# Altium integrated library AD DSP 16-Bit.IntLib: 146 symbols (part 4 of 7)
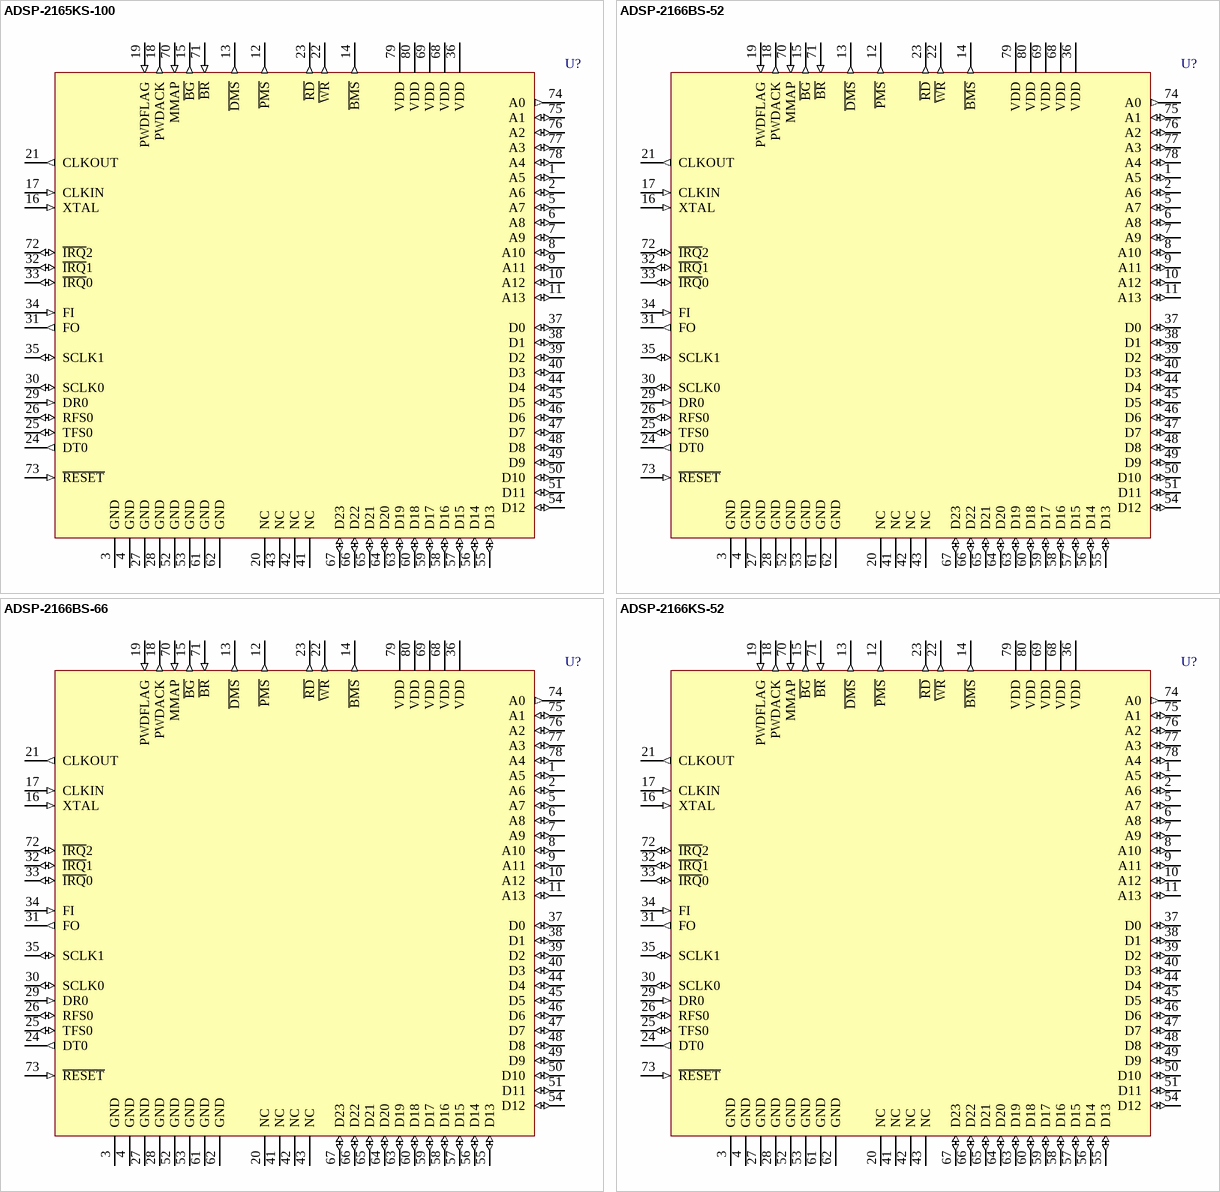
[diagram p48: symbols ADSP-2165KS-100 to ADSP-2166KS-52]

## ADSP-2165KS-100
designator U?
DSP Microcomputers with ROM; Published: 24-Aug-2001; LatestRevisionDate: 13-Apr-2006; LatestRevisionNote: IPC-7351 Footprint Added.; DatasheetVersion: 1999; PackageVersion: 2000; PackageReference: S-80A; Publisher: Altium Limited; PackageDescription: 80-Pin Quad Flat Pack 0.65 mm Pitch; Code_IPC: QFP65P1720X1720-80; ComponentLink1Description: Manufacturer Link; ComponentLink1URL: http://www.analog.com/
footprint S-80A_N (QFP, 80-Leads, Body 14 x 14mm, Pitch 0.65mm, IPC Medium Density)
footprint S-80A_L (QFP, 80-Leads, Body 14 x 14mm, Pitch 0.65mm, IPC High Density)
footprint S-80A_M (QFP, 80-Leads, Body 14 x 14mm, Pitch 0.65mm, IPC Low Density)
3D model 2165-S80A (80-Pin Quad Flat Pack 0.65 mm Pitch)
pins: 1 A5 (io), 2 A6 (io), 3 GND (power), 4 GND (power), 5 A7 (io), 6 A8 (io), 7 A9 (io), 8 A10 (io), 9 A11 (io), 10 A12 (io), 11 A13 (io), 12 ~{PMS} (out), 13 ~{DMS} (out), 14 ~{BMS} (out), 15 ~{BG} (out), 16 XTAL (in), 17 CLKIN (in), 18 PWDACK (out), 19 PWDFLAG (in), 20 NC, 21 CLKOUT (out), 22 ~{WR} (out), 23 ~{RD} (out), 24 DT0 (out), 25 TFS0 (io), 26 RFS0 (io), 27 GND (power), 28 GND (power), 29 DR0 (in), 30 SCLK0 (io), 31 FO (out), 32 ~{IRQ}1 (io), 33 ~{IRQ}0 (io), 34 FI (in), 35 SCLK1 (io), 36 VDD (power), 37 D0 (io), 38 D1 (io), 39 D2 (io), 40 D3 (io), 41 NC, 42 NC, 43 NC, 44 D4 (io), 45 D5 (io), 46 D6 (io), 47 D7 (io), 48 D8 (io), 49 D9 (io), 50 D10 (io), 51 D11 (io), 52 GND (power), 53 GND (power), 54 D12 (io), 55 D13 (io), 56 D14 (io), 57 D15 (io), 58 D16 (io), 59 D17 (io), 60 D18 (io), 61 GND (power), 62 GND (power), 63 D19 (io), 64 D20 (io), 65 D21 (io), 66 D22 (io), 67 D23 (io), 68 VDD (power), 69 VDD (power), 70 MMAP (in), 71 ~{BR} (in), 72 ~{IRQ}2 (io), 73 ~{RESET} (in), 74 A0 (out), 75 A1 (io), 76 A2 (io), 77 A3 (io), 78 A4 (io), 79 VDD (power), 80 VDD (power)

## ADSP-2166BS-52
designator U?
DSP Microcomputers with ROM; Published: 24-Aug-2001; LatestRevisionDate: 13-Apr-2006; LatestRevisionNote: IPC-7351 Footprint Added.; DatasheetVersion: 1999; PackageVersion: 2000; PackageReference: S-80A; Publisher: Altium Limited; PackageDescription: 80-Pin Quad Flat Pack 0.65 mm Pitch; Code_IPC: QFP65P1720X1720-80; ComponentLink1Description: Manufacturer Link; ComponentLink1URL: http://www.analog.com/
footprint S-80A_N (QFP, 80-Leads, Body 14 x 14mm, Pitch 0.65mm, IPC Medium Density)
footprint S-80A_L (QFP, 80-Leads, Body 14 x 14mm, Pitch 0.65mm, IPC High Density)
footprint S-80A_M (QFP, 80-Leads, Body 14 x 14mm, Pitch 0.65mm, IPC Low Density)
3D model 2166-S80A (80-Pin Quad Flat Pack 0.65 mm Pitch)
pins: 1 A5 (io), 2 A6 (io), 3 GND (power), 4 GND (power), 5 A7 (io), 6 A8 (io), 7 A9 (io), 8 A10 (io), 9 A11 (io), 10 A12 (io), 11 A13 (io), 12 ~{PMS} (out), 13 ~{DMS} (out), 14 ~{BMS} (out), 15 ~{BG} (out), 16 XTAL (in), 17 CLKIN (in), 18 PWDACK (out), 19 PWDFLAG (in), 20 NC, 21 CLKOUT (out), 22 ~{WR} (out), 23 ~{RD} (out), 24 DT0 (out), 25 TFS0 (io), 26 RFS0 (io), 27 GND (power), 28 GND (power), 29 DR0 (in), 30 SCLK0 (io), 31 FO (out), 32 ~{IRQ}1 (io), 33 ~{IRQ}0 (io), 34 FI (in), 35 SCLK1 (io), 36 VDD (power), 37 D0 (io), 38 D1 (io), 39 D2 (io), 40 D3 (io), 41 NC, 42 NC, 43 NC, 44 D4 (io), 45 D5 (io), 46 D6 (io), 47 D7 (io), 48 D8 (io), 49 D9 (io), 50 D10 (io), 51 D11 (io), 52 GND (power), 53 GND (power), 54 D12 (io), 55 D13 (io), 56 D14 (io), 57 D15 (io), 58 D16 (io), 59 D17 (io), 60 D18 (io), 61 GND (power), 62 GND (power), 63 D19 (io), 64 D20 (io), 65 D21 (io), 66 D22 (io), 67 D23 (io), 68 VDD (power), 69 VDD (power), 70 MMAP (in), 71 ~{BR} (in), 72 ~{IRQ}2 (io), 73 ~{RESET} (in), 74 A0 (out), 75 A1 (io), 76 A2 (io), 77 A3 (io), 78 A4 (io), 79 VDD (power), 80 VDD (power)

## ADSP-2166BS-66
designator U?
DSP Microcomputers with ROM; Published: 24-Aug-2001; LatestRevisionDate: 13-Apr-2006; LatestRevisionNote: IPC-7351 Footprint Added.; DatasheetVersion: 1999; PackageVersion: 2000; PackageReference: S-80A; Publisher: Altium Limited; PackageDescription: 80-Pin Quad Flat Pack 0.65 mm Pitch; Code_IPC: QFP65P1720X1720-80; ComponentLink1Description: Manufacturer Link; ComponentLink1URL: http://www.analog.com/
footprint S-80A_N (QFP, 80-Leads, Body 14 x 14mm, Pitch 0.65mm, IPC Medium Density)
footprint S-80A_L (QFP, 80-Leads, Body 14 x 14mm, Pitch 0.65mm, IPC High Density)
footprint S-80A_M (QFP, 80-Leads, Body 14 x 14mm, Pitch 0.65mm, IPC Low Density)
3D model 2166-S80A (80-Pin Quad Flat Pack 0.65 mm Pitch)
pins: 1 A5 (io), 2 A6 (io), 3 GND (power), 4 GND (power), 5 A7 (io), 6 A8 (io), 7 A9 (io), 8 A10 (io), 9 A11 (io), 10 A12 (io), 11 A13 (io), 12 ~{PMS} (out), 13 ~{DMS} (out), 14 ~{BMS} (out), 15 ~{BG} (out), 16 XTAL (in), 17 CLKIN (in), 18 PWDACK (out), 19 PWDFLAG (in), 20 NC, 21 CLKOUT (out), 22 ~{WR} (out), 23 ~{RD} (out), 24 DT0 (out), 25 TFS0 (io), 26 RFS0 (io), 27 GND (power), 28 GND (power), 29 DR0 (in), 30 SCLK0 (io), 31 FO (out), 32 ~{IRQ}1 (io), 33 ~{IRQ}0 (io), 34 FI (in), 35 SCLK1 (io), 36 VDD (power), 37 D0 (io), 38 D1 (io), 39 D2 (io), 40 D3 (io), 41 NC, 42 NC, 43 NC, 44 D4 (io), 45 D5 (io), 46 D6 (io), 47 D7 (io), 48 D8 (io), 49 D9 (io), 50 D10 (io), 51 D11 (io), 52 GND (power), 53 GND (power), 54 D12 (io), 55 D13 (io), 56 D14 (io), 57 D15 (io), 58 D16 (io), 59 D17 (io), 60 D18 (io), 61 GND (power), 62 GND (power), 63 D19 (io), 64 D20 (io), 65 D21 (io), 66 D22 (io), 67 D23 (io), 68 VDD (power), 69 VDD (power), 70 MMAP (in), 71 ~{BR} (in), 72 ~{IRQ}2 (io), 73 ~{RESET} (in), 74 A0 (out), 75 A1 (io), 76 A2 (io), 77 A3 (io), 78 A4 (io), 79 VDD (power), 80 VDD (power)

## ADSP-2166KS-52
designator U?
DSP Microcomputers with ROM; Published: 24-Aug-2001; LatestRevisionDate: 13-Apr-2006; LatestRevisionNote: IPC-7351 Footprint Added.; DatasheetVersion: 1999; PackageVersion: 2000; PackageReference: S-80A; Publisher: Altium Limited; PackageDescription: 80-Pin Quad Flat Pack 0.65 mm Pitch; Code_IPC: QFP65P1720X1720-80; ComponentLink1Description: Manufacturer Link; ComponentLink1URL: http://www.analog.com/
footprint S-80A_N (QFP, 80-Leads, Body 14 x 14mm, Pitch 0.65mm, IPC Medium Density)
footprint S-80A_L (QFP, 80-Leads, Body 14 x 14mm, Pitch 0.65mm, IPC High Density)
footprint S-80A_M (QFP, 80-Leads, Body 14 x 14mm, Pitch 0.65mm, IPC Low Density)
3D model 2166-S80A (80-Pin Quad Flat Pack 0.65 mm Pitch)
pins: 1 A5 (io), 2 A6 (io), 3 GND (power), 4 GND (power), 5 A7 (io), 6 A8 (io), 7 A9 (io), 8 A10 (io), 9 A11 (io), 10 A12 (io), 11 A13 (io), 12 ~{PMS} (out), 13 ~{DMS} (out), 14 ~{BMS} (out), 15 ~{BG} (out), 16 XTAL (in), 17 CLKIN (in), 18 PWDACK (out), 19 PWDFLAG (in), 20 NC, 21 CLKOUT (out), 22 ~{WR} (out), 23 ~{RD} (out), 24 DT0 (out), 25 TFS0 (io), 26 RFS0 (io), 27 GND (power), 28 GND (power), 29 DR0 (in), 30 SCLK0 (io), 31 FO (out), 32 ~{IRQ}1 (io), 33 ~{IRQ}0 (io), 34 FI (in), 35 SCLK1 (io), 36 VDD (power), 37 D0 (io), 38 D1 (io), 39 D2 (io), 40 D3 (io), 41 NC, 42 NC, 43 NC, 44 D4 (io), 45 D5 (io), 46 D6 (io), 47 D7 (io), 48 D8 (io), 49 D9 (io), 50 D10 (io), 51 D11 (io), 52 GND (power), 53 GND (power), 54 D12 (io), 55 D13 (io), 56 D14 (io), 57 D15 (io), 58 D16 (io), 59 D17 (io), 60 D18 (io), 61 GND (power), 62 GND (power), 63 D19 (io), 64 D20 (io), 65 D21 (io), 66 D22 (io), 67 D23 (io), 68 VDD (power), 69 VDD (power), 70 MMAP (in), 71 ~{BR} (in), 72 ~{IRQ}2 (io), 73 ~{RESET} (in), 74 A0 (out), 75 A1 (io), 76 A2 (io), 77 A3 (io), 78 A4 (io), 79 VDD (power), 80 VDD (power)

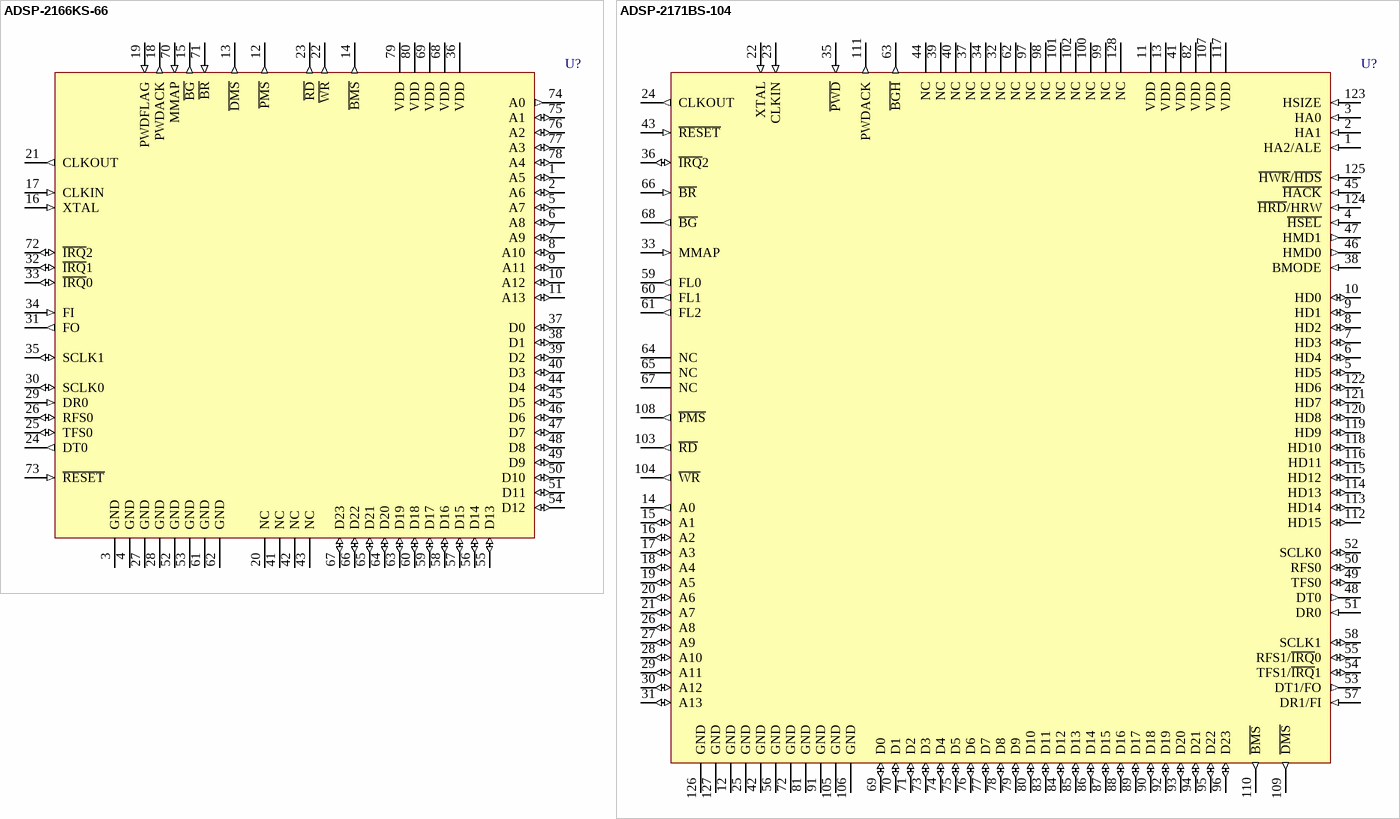
[diagram p19: symbols ADSP-2166KS-66 to ADSP-2171BS-104]

## ADSP-2166KS-66
designator U?
DSP Microcomputers with ROM; Published: 24-Aug-2001; LatestRevisionDate: 13-Apr-2006; LatestRevisionNote: IPC-7351 Footprint Added.; DatasheetVersion: 1999; PackageVersion: 2000; PackageReference: S-80A; Publisher: Altium Limited; PackageDescription: 80-Pin Quad Flat Pack 0.65 mm Pitch; Code_IPC: QFP65P1720X1720-80; ComponentLink1Description: Manufacturer Link; ComponentLink1URL: http://www.analog.com/
footprint S-80A_N (QFP, 80-Leads, Body 14 x 14mm, Pitch 0.65mm, IPC Medium Density)
footprint S-80A_L (QFP, 80-Leads, Body 14 x 14mm, Pitch 0.65mm, IPC High Density)
footprint S-80A_M (QFP, 80-Leads, Body 14 x 14mm, Pitch 0.65mm, IPC Low Density)
3D model 2166-S80A (80-Pin Quad Flat Pack 0.65 mm Pitch)
pins: 1 A5 (io), 2 A6 (io), 3 GND (power), 4 GND (power), 5 A7 (io), 6 A8 (io), 7 A9 (io), 8 A10 (io), 9 A11 (io), 10 A12 (io), 11 A13 (io), 12 ~{PMS} (out), 13 ~{DMS} (out), 14 ~{BMS} (out), 15 ~{BG} (out), 16 XTAL (in), 17 CLKIN (in), 18 PWDACK (out), 19 PWDFLAG (in), 20 NC, 21 CLKOUT (out), 22 ~{WR} (out), 23 ~{RD} (out), 24 DT0 (out), 25 TFS0 (io), 26 RFS0 (io), 27 GND (power), 28 GND (power), 29 DR0 (in), 30 SCLK0 (io), 31 FO (out), 32 ~{IRQ}1 (io), 33 ~{IRQ}0 (io), 34 FI (in), 35 SCLK1 (io), 36 VDD (power), 37 D0 (io), 38 D1 (io), 39 D2 (io), 40 D3 (io), 41 NC, 42 NC, 43 NC, 44 D4 (io), 45 D5 (io), 46 D6 (io), 47 D7 (io), 48 D8 (io), 49 D9 (io), 50 D10 (io), 51 D11 (io), 52 GND (power), 53 GND (power), 54 D12 (io), 55 D13 (io), 56 D14 (io), 57 D15 (io), 58 D16 (io), 59 D17 (io), 60 D18 (io), 61 GND (power), 62 GND (power), 63 D19 (io), 64 D20 (io), 65 D21 (io), 66 D22 (io), 67 D23 (io), 68 VDD (power), 69 VDD (power), 70 MMAP (in), 71 ~{BR} (in), 72 ~{IRQ}2 (io), 73 ~{RESET} (in), 74 A0 (out), 75 A1 (io), 76 A2 (io), 77 A3 (io), 78 A4 (io), 79 VDD (power), 80 VDD (power)

## ADSP-2171BS-104
designator U?
33 MIPS, 5V, 2 Serial Ports, Host Port; Published: 24-Aug-2001; LatestRevisionDate: 13-Apr-2006; LatestRevisionNote: IPC-7351 Footprint Added.; DatasheetVersion: 1995; PackageVersion: 2000; PackageReference: S-128; Publisher: Altium Limited; PackageDescription: 128-Pin Quad Flat Pack 0.8 mm Pitch; Code_IPC: QFP80P3120X3120-128; ComponentLink1Description: Manufacturer Link; ComponentLink1URL: http://www.analog.com/; ComponentLink2Description: Datasheet; ComponentLink2URL: http://www.analog.com/UploadedFiles/Data_Sheets/285648807adsp_71.pdf
footprint S-128_N (QFP, 128-Leads, Body 28x28mm, Pitch 0.8mm, IPC Medium Density)
footprint S-128_L (QFP, 128-Leads, Body 28x28mm, Pitch 0.8mm, IPC High Density)
footprint S-128_M (QFP, 128-Leads, Body 28x28mm, Pitch 0.8mm, IPC Low Density)
3D model 2171-S128 (128-Pin Quad Flat Pack 0.8 mm Pitch)
pins: 1 HA2/ALE (in), 2 HA1 (in), 3 HA0 (in), 4 ~{HSEL} (in), 5 HD5 (io), 6 HD4 (io), 7 HD3 (io), 8 HD2 (io), 9 HD1 (io), 10 HD0 (io), 11 VDD (power), 12 GND (power), 13 VDD (power), 14 A0 (out), 15 A1 (io), 16 A2 (io), 17 A3 (io), 18 A4 (io), 19 A5 (io), 20 A6 (io), 21 A7 (io), 22 XTAL (in), 23 CLKIN (in), 24 CLKOUT (out), 25 GND (power), 26 A8 (io), 27 A9 (io), 28 A10 (io), 29 A11 (io), 30 A12 (io), 31 A13 (io), 32 NC, 33 MMAP (in), 34 NC, 35 ~{PWD} (in), 36 ~{IRQ}2 (io), 37 NC, 38 BMODE (in), 39 NC, 40 NC, 41 VDD (power), 42 GND (power), 43 ~{RESET} (in), 44 NC, 45 ~{HACK} (in), 46 HMD0 (out), 47 HMD1 (out), 48 DT0 (out), 49 TFS0 (io), 50 RFS0 (io), 51 DR0 (in), 52 SCLK0 (io), 53 DT1/FO (out), 54 TFS1/~{IRQ}1 (io), 55 RFS1/~{IRQ}0 (io), 56 GND (power), 57 DR1/FI (in), 58 SCLK1 (io), 59 FL0 (out), 60 FL1 (out), 61 FL2 (out), 62 NC, 63 ~{BGH} (out), 64 NC, 65 NC, 66 ~{BR} (in), 67 NC, 68 ~{BG} (out), 69 D0 (io), 70 D1 (io), 71 D2 (io), 72 GND (power), 73 D3 (io), 74 D4 (io), 75 D5 (io), 76 D6 (io), 77 D7 (io), 78 D8 (io), 79 D9 (io), 80 D10 (io), 81 GND (power), 82 VDD (power), 83 D11 (io), 84 D12 (io), 85 D13 (io), 86 D14 (io), 87 D15 (io), 88 D16 (io), 89 D17 (io), 90 D18 (io), 91 GND (power), 92 D19 (io), 93 D20 (io), 94 D21 (io), 95 D22 (io), 96 D23 (io), 97 NC, 98 NC, 99 NC, 100 NC, 101 NC, 102 NC, 103 ~{RD} (out), 104 ~{WR} (out), 105 GND (power), 106 GND (power), 107 VDD (power), 108 ~{PMS} (out), 109 ~{DMS} (out), 110 ~{BMS} (out), 111 PWDACK (out), 112 HD15 (io), 113 HD14 (io), 114 HD13 (io), 115 HD12 (io), 116 HD11 (io), 117 VDD (power), 118 HD10 (io), 119 HD9 (io), 120 HD8 (io), 121 HD7 (io), 122 HD6 (io), 123 HSIZE (in), 124 ~{HRD}/HRW (in), 125 ~{HWR}/~{HDS} (in), 126 GND (power), 127 GND (power), 128 NC

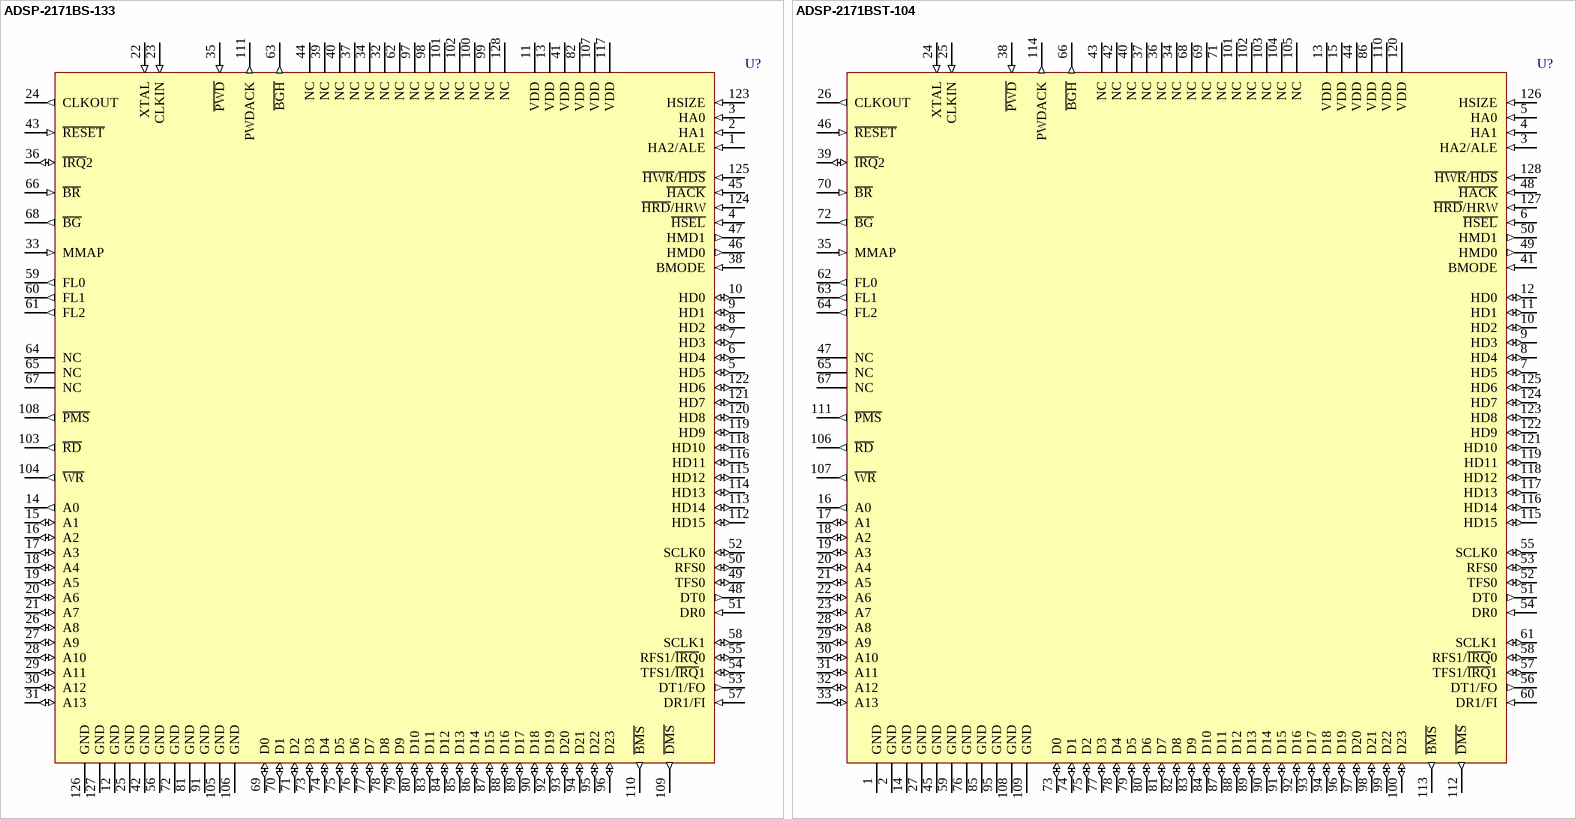
[diagram p20: symbols ADSP-2171BS-133 to ADSP-2171BST-104]

## ADSP-2171BS-133
designator U?
33 MIPS, 5V, 2 Serial Ports, Host Port; Published: 24-Aug-2001; LatestRevisionDate: 13-Apr-2006; LatestRevisionNote: IPC-7351 Footprint Added.; DatasheetVersion: 1995; PackageVersion: 2000; PackageReference: S-128; Publisher: Altium Limited; PackageDescription: 128-Pin Quad Flat Pack 0.8 mm Pitch; Code_IPC: QFP80P3120X3120-128; ComponentLink1Description: Manufacturer Link; ComponentLink1URL: http://www.analog.com/; ComponentLink2Description: Datasheet; ComponentLink2URL: http://www.analog.com/UploadedFiles/Data_Sheets/285648807adsp_71.pdf
footprint S-128_N (QFP, 128-Leads, Body 28x28mm, Pitch 0.8mm, IPC Medium Density)
footprint S-128_L (QFP, 128-Leads, Body 28x28mm, Pitch 0.8mm, IPC High Density)
footprint S-128_M (QFP, 128-Leads, Body 28x28mm, Pitch 0.8mm, IPC Low Density)
3D model 2171-S128 (128-Pin Quad Flat Pack 0.8 mm Pitch)
pins: 1 HA2/ALE (in), 2 HA1 (in), 3 HA0 (in), 4 ~{HSEL} (in), 5 HD5 (io), 6 HD4 (io), 7 HD3 (io), 8 HD2 (io), 9 HD1 (io), 10 HD0 (io), 11 VDD (power), 12 GND (power), 13 VDD (power), 14 A0 (out), 15 A1 (io), 16 A2 (io), 17 A3 (io), 18 A4 (io), 19 A5 (io), 20 A6 (io), 21 A7 (io), 22 XTAL (in), 23 CLKIN (in), 24 CLKOUT (out), 25 GND (power), 26 A8 (io), 27 A9 (io), 28 A10 (io), 29 A11 (io), 30 A12 (io), 31 A13 (io), 32 NC, 33 MMAP (in), 34 NC, 35 ~{PWD} (in), 36 ~{IRQ}2 (io), 37 NC, 38 BMODE (in), 39 NC, 40 NC, 41 VDD (power), 42 GND (power), 43 ~{RESET} (in), 44 NC, 45 ~{HACK} (in), 46 HMD0 (out), 47 HMD1 (out), 48 DT0 (out), 49 TFS0 (io), 50 RFS0 (io), 51 DR0 (in), 52 SCLK0 (io), 53 DT1/FO (out), 54 TFS1/~{IRQ}1 (io), 55 RFS1/~{IRQ}0 (io), 56 GND (power), 57 DR1/FI (in), 58 SCLK1 (io), 59 FL0 (out), 60 FL1 (out), 61 FL2 (out), 62 NC, 63 ~{BGH} (out), 64 NC, 65 NC, 66 ~{BR} (in), 67 NC, 68 ~{BG} (out), 69 D0 (io), 70 D1 (io), 71 D2 (io), 72 GND (power), 73 D3 (io), 74 D4 (io), 75 D5 (io), 76 D6 (io), 77 D7 (io), 78 D8 (io), 79 D9 (io), 80 D10 (io), 81 GND (power), 82 VDD (power), 83 D11 (io), 84 D12 (io), 85 D13 (io), 86 D14 (io), 87 D15 (io), 88 D16 (io), 89 D17 (io), 90 D18 (io), 91 GND (power), 92 D19 (io), 93 D20 (io), 94 D21 (io), 95 D22 (io), 96 D23 (io), 97 NC, 98 NC, 99 NC, 100 NC, 101 NC, 102 NC, 103 ~{RD} (out), 104 ~{WR} (out), 105 GND (power), 106 GND (power), 107 VDD (power), 108 ~{PMS} (out), 109 ~{DMS} (out), 110 ~{BMS} (out), 111 PWDACK (out), 112 HD15 (io), 113 HD14 (io), 114 HD13 (io), 115 HD12 (io), 116 HD11 (io), 117 VDD (power), 118 HD10 (io), 119 HD9 (io), 120 HD8 (io), 121 HD7 (io), 122 HD6 (io), 123 HSIZE (in), 124 ~{HRD}/HRW (in), 125 ~{HWR}/~{HDS} (in), 126 GND (power), 127 GND (power), 128 NC

## ADSP-2171BST-104
designator U?
33 MIPS, 5V, 2 Serial Ports, Host Port; Published: 24-Aug-2001; LatestRevisionDate: 13-Apr-2006; LatestRevisionNote: IPC-7351 Footprint Added.; DatasheetVersion: 1995; PackageVersion: 2000; PackageReference: ST-128; Publisher: Altium Limited; PackageDescription: 128-Pin Thin Quad Flat Pack Rectangular 0.5 mm Pitch; ComponentLink1Description: Manufacturer Link; ComponentLink1URL: http://www.analog.com/; ComponentLink2Description: Datasheet; ComponentLink2URL: http://www.analog.com/UploadedFiles/Data_Sheets/285648807adsp_71.pdf
footprint ST-128_N (Thin QFP, 128-Leads, Body 20x14 mm, Pitch 0.5mm, IPC Medium Density)
footprint ST-128_L (Thin QFP, 128-Leads, Body 20x14 mm, Pitch 0.5mm, IPC High Density)
footprint ST-128_M (Thin QFP, 128-Leads, Body 20x14 mm, Pitch 0.5mm, IPC Low Density)
3D model 2171-ST128 (128-Pin Thin Quad Flat Pack Rectangular 0.5 mm Pitch)
pins: 1 GND (power), 2 GND (power), 3 HA2/ALE (in), 4 HA1 (in), 5 HA0 (in), 6 ~{HSEL} (in), 7 HD5 (io), 8 HD4 (io), 9 HD3 (io), 10 HD2 (io), 11 HD1 (io), 12 HD0 (io), 13 VDD (power), 14 GND (power), 15 VDD (power), 16 A0 (out), 17 A1 (io), 18 A2 (io), 19 A3 (io), 20 A4 (io), 21 A5 (io), 22 A6 (io), 23 A7 (io), 24 XTAL (in), 25 CLKIN (in), 26 CLKOUT (out), 27 GND (power), 28 A8 (io), 29 A9 (io), 30 A10 (io), 31 A11 (io), 32 A12 (io), 33 A13 (io), 34 NC, 35 MMAP (in), 36 NC, 37 NC, 38 ~{PWD} (in), 39 ~{IRQ}2 (io), 40 NC, 41 BMODE (in), 42 NC, 43 NC, 44 VDD (power), 45 GND (power), 46 ~{RESET} (in), 47 NC, 48 ~{HACK} (in), 49 HMD0 (out), 50 HMD1 (out), 51 DT0 (out), 52 TFS0 (io), 53 RFS0 (io), 54 DR0 (in), 55 SCLK0 (io), 56 DT1/FO (out), 57 TFS1/~{IRQ}1 (io), 58 RFS1/~{IRQ}0 (io), 59 GND (power), 60 DR1/FI (in), 61 SCLK1 (io), 62 FL0 (out), 63 FL1 (out), 64 FL2 (out), 65 NC, 66 ~{BGH} (out), 67 NC, 68 NC, 69 NC, 70 ~{BR} (in), 71 NC, 72 ~{BG} (out), 73 D0 (io), 74 D1 (io), 75 D2 (io), 76 GND (power), 77 D3 (io), 78 D4 (io), 79 D5 (io), 80 D6 (io), 81 D7 (io), 82 D8 (io), 83 D9 (io), 84 D10 (io), 85 GND (power), 86 VDD (power), 87 D11 (io), 88 D12 (io), 89 D13 (io), 90 D14 (io), 91 D15 (io), 92 D16 (io), 93 D17 (io), 94 D18 (io), 95 GND (power), 96 D19 (io), 97 D20 (io), 98 D21 (io), 99 D22 (io), 100 D23 (io), 101 NC, 102 NC, 103 NC, 104 NC, 105 NC, 106 ~{RD} (out), 107 ~{WR} (out), 108 GND (power), 109 GND (power), 110 VDD (power), 111 ~{PMS} (out), 112 ~{DMS} (out), 113 ~{BMS} (out), 114 PWDACK (out), 115 HD15 (io), 116 HD14 (io), 117 HD13 (io), 118 HD12 (io), 119 HD11 (io), 120 VDD (power), 121 HD10 (io), 122 HD9 (io), 123 HD8 (io), 124 HD7 (io), 125 HD6 (io), 126 HSIZE (in), 127 ~{HRD}/HRW (in), 128 ~{HWR}/~{HDS} (in)

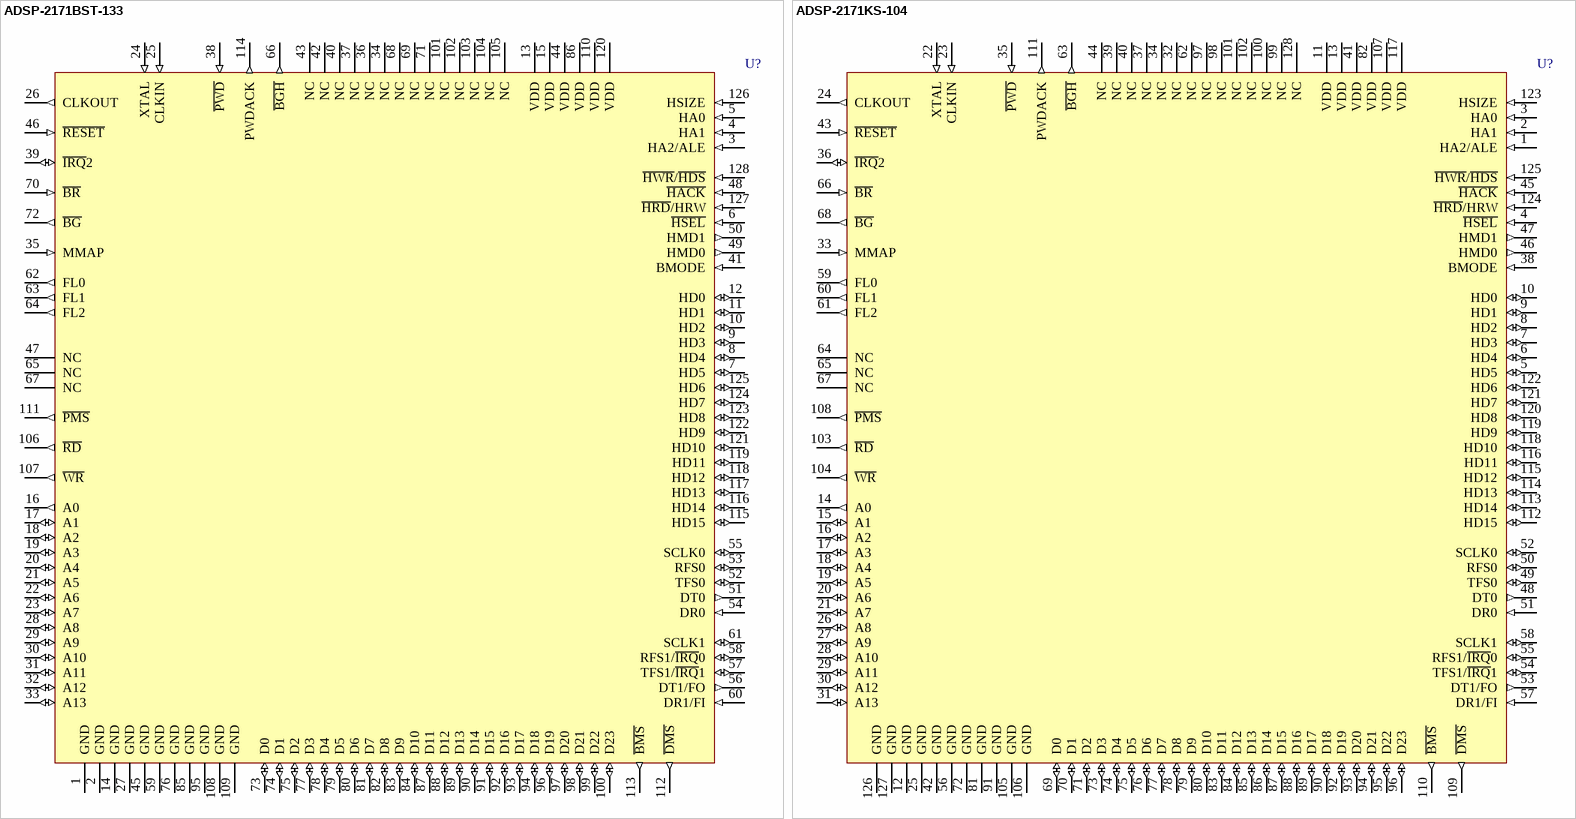
[diagram p21: symbols ADSP-2171BST-133 to ADSP-2171KS-104]

## ADSP-2171BST-133
designator U?
33 MIPS, 5V, 2 Serial Ports, Host Port; Published: 24-Aug-2001; LatestRevisionDate: 13-Apr-2006; LatestRevisionNote: IPC-7351 Footprint Added.; DatasheetVersion: 1995; PackageVersion: 2000; PackageReference: ST-128; Publisher: Altium Limited; PackageDescription: 128-Pin Thin Quad Flat Pack Rectangular 0.5 mm Pitch; ComponentLink1Description: Manufacturer Link; ComponentLink1URL: http://www.analog.com/; ComponentLink2Description: Datasheet; ComponentLink2URL: http://www.analog.com/UploadedFiles/Data_Sheets/285648807adsp_71.pdf
footprint ST-128_N (Thin QFP, 128-Leads, Body 20x14 mm, Pitch 0.5mm, IPC Medium Density)
footprint ST-128_L (Thin QFP, 128-Leads, Body 20x14 mm, Pitch 0.5mm, IPC High Density)
footprint ST-128_M (Thin QFP, 128-Leads, Body 20x14 mm, Pitch 0.5mm, IPC Low Density)
3D model 2171-ST128 (128-Pin Thin Quad Flat Pack Rectangular 0.5 mm Pitch)
pins: 1 GND (power), 2 GND (power), 3 HA2/ALE (in), 4 HA1 (in), 5 HA0 (in), 6 ~{HSEL} (in), 7 HD5 (io), 8 HD4 (io), 9 HD3 (io), 10 HD2 (io), 11 HD1 (io), 12 HD0 (io), 13 VDD (power), 14 GND (power), 15 VDD (power), 16 A0 (out), 17 A1 (io), 18 A2 (io), 19 A3 (io), 20 A4 (io), 21 A5 (io), 22 A6 (io), 23 A7 (io), 24 XTAL (in), 25 CLKIN (in), 26 CLKOUT (out), 27 GND (power), 28 A8 (io), 29 A9 (io), 30 A10 (io), 31 A11 (io), 32 A12 (io), 33 A13 (io), 34 NC, 35 MMAP (in), 36 NC, 37 NC, 38 ~{PWD} (in), 39 ~{IRQ}2 (io), 40 NC, 41 BMODE (in), 42 NC, 43 NC, 44 VDD (power), 45 GND (power), 46 ~{RESET} (in), 47 NC, 48 ~{HACK} (in), 49 HMD0 (out), 50 HMD1 (out), 51 DT0 (out), 52 TFS0 (io), 53 RFS0 (io), 54 DR0 (in), 55 SCLK0 (io), 56 DT1/FO (out), 57 TFS1/~{IRQ}1 (io), 58 RFS1/~{IRQ}0 (io), 59 GND (power), 60 DR1/FI (in), 61 SCLK1 (io), 62 FL0 (out), 63 FL1 (out), 64 FL2 (out), 65 NC, 66 ~{BGH} (out), 67 NC, 68 NC, 69 NC, 70 ~{BR} (in), 71 NC, 72 ~{BG} (out), 73 D0 (io), 74 D1 (io), 75 D2 (io), 76 GND (power), 77 D3 (io), 78 D4 (io), 79 D5 (io), 80 D6 (io), 81 D7 (io), 82 D8 (io), 83 D9 (io), 84 D10 (io), 85 GND (power), 86 VDD (power), 87 D11 (io), 88 D12 (io), 89 D13 (io), 90 D14 (io), 91 D15 (io), 92 D16 (io), 93 D17 (io), 94 D18 (io), 95 GND (power), 96 D19 (io), 97 D20 (io), 98 D21 (io), 99 D22 (io), 100 D23 (io), 101 NC, 102 NC, 103 NC, 104 NC, 105 NC, 106 ~{RD} (out), 107 ~{WR} (out), 108 GND (power), 109 GND (power), 110 VDD (power), 111 ~{PMS} (out), 112 ~{DMS} (out), 113 ~{BMS} (out), 114 PWDACK (out), 115 HD15 (io), 116 HD14 (io), 117 HD13 (io), 118 HD12 (io), 119 HD11 (io), 120 VDD (power), 121 HD10 (io), 122 HD9 (io), 123 HD8 (io), 124 HD7 (io), 125 HD6 (io), 126 HSIZE (in), 127 ~{HRD}/HRW (in), 128 ~{HWR}/~{HDS} (in)

## ADSP-2171KS-104
designator U?
33 MIPS, 5V, 2 Serial Ports, Host Port; Published: 24-Aug-2001; LatestRevisionDate: 13-Apr-2006; LatestRevisionNote: IPC-7351 Footprint Added.; DatasheetVersion: 1995; PackageVersion: 2000; PackageReference: S-128; Publisher: Altium Limited; PackageDescription: 128-Pin Quad Flat Pack 0.8 mm Pitch; Code_IPC: QFP80P3120X3120-128; ComponentLink1Description: Manufacturer Link; ComponentLink1URL: http://www.analog.com/; ComponentLink2Description: Datasheet; ComponentLink2URL: http://www.analog.com/UploadedFiles/Data_Sheets/285648807adsp_71.pdf
footprint S-128_N (QFP, 128-Leads, Body 28x28mm, Pitch 0.8mm, IPC Medium Density)
footprint S-128_L (QFP, 128-Leads, Body 28x28mm, Pitch 0.8mm, IPC High Density)
footprint S-128_M (QFP, 128-Leads, Body 28x28mm, Pitch 0.8mm, IPC Low Density)
3D model 2171-S128 (128-Pin Quad Flat Pack 0.8 mm Pitch)
pins: 1 HA2/ALE (in), 2 HA1 (in), 3 HA0 (in), 4 ~{HSEL} (in), 5 HD5 (io), 6 HD4 (io), 7 HD3 (io), 8 HD2 (io), 9 HD1 (io), 10 HD0 (io), 11 VDD (power), 12 GND (power), 13 VDD (power), 14 A0 (out), 15 A1 (io), 16 A2 (io), 17 A3 (io), 18 A4 (io), 19 A5 (io), 20 A6 (io), 21 A7 (io), 22 XTAL (in), 23 CLKIN (in), 24 CLKOUT (out), 25 GND (power), 26 A8 (io), 27 A9 (io), 28 A10 (io), 29 A11 (io), 30 A12 (io), 31 A13 (io), 32 NC, 33 MMAP (in), 34 NC, 35 ~{PWD} (in), 36 ~{IRQ}2 (io), 37 NC, 38 BMODE (in), 39 NC, 40 NC, 41 VDD (power), 42 GND (power), 43 ~{RESET} (in), 44 NC, 45 ~{HACK} (in), 46 HMD0 (out), 47 HMD1 (out), 48 DT0 (out), 49 TFS0 (io), 50 RFS0 (io), 51 DR0 (in), 52 SCLK0 (io), 53 DT1/FO (out), 54 TFS1/~{IRQ}1 (io), 55 RFS1/~{IRQ}0 (io), 56 GND (power), 57 DR1/FI (in), 58 SCLK1 (io), 59 FL0 (out), 60 FL1 (out), 61 FL2 (out), 62 NC, 63 ~{BGH} (out), 64 NC, 65 NC, 66 ~{BR} (in), 67 NC, 68 ~{BG} (out), 69 D0 (io), 70 D1 (io), 71 D2 (io), 72 GND (power), 73 D3 (io), 74 D4 (io), 75 D5 (io), 76 D6 (io), 77 D7 (io), 78 D8 (io), 79 D9 (io), 80 D10 (io), 81 GND (power), 82 VDD (power), 83 D11 (io), 84 D12 (io), 85 D13 (io), 86 D14 (io), 87 D15 (io), 88 D16 (io), 89 D17 (io), 90 D18 (io), 91 GND (power), 92 D19 (io), 93 D20 (io), 94 D21 (io), 95 D22 (io), 96 D23 (io), 97 NC, 98 NC, 99 NC, 100 NC, 101 NC, 102 NC, 103 ~{RD} (out), 104 ~{WR} (out), 105 GND (power), 106 GND (power), 107 VDD (power), 108 ~{PMS} (out), 109 ~{DMS} (out), 110 ~{BMS} (out), 111 PWDACK (out), 112 HD15 (io), 113 HD14 (io), 114 HD13 (io), 115 HD12 (io), 116 HD11 (io), 117 VDD (power), 118 HD10 (io), 119 HD9 (io), 120 HD8 (io), 121 HD7 (io), 122 HD6 (io), 123 HSIZE (in), 124 ~{HRD}/HRW (in), 125 ~{HWR}/~{HDS} (in), 126 GND (power), 127 GND (power), 128 NC

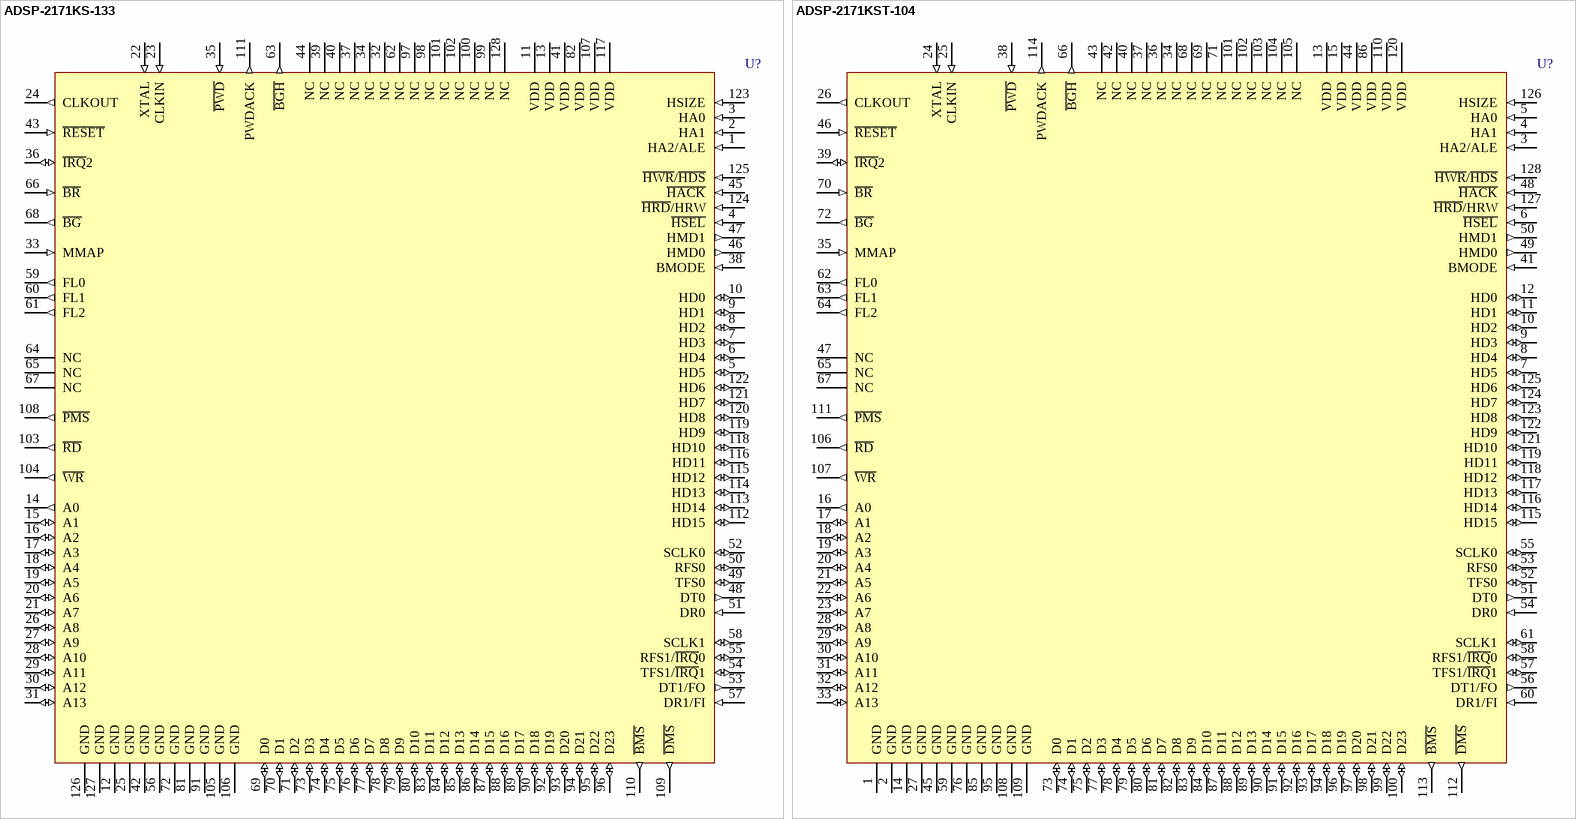
[diagram p22: symbols ADSP-2171KS-133 to ADSP-2171KST-104]

## ADSP-2171KS-133
designator U?
33 MIPS, 5V, 2 Serial Ports, Host Port; Published: 24-Aug-2001; LatestRevisionDate: 13-Apr-2006; LatestRevisionNote: IPC-7351 Footprint Added.; DatasheetVersion: 1995; PackageVersion: 2000; PackageReference: S-128; Publisher: Altium Limited; PackageDescription: 128-Pin Quad Flat Pack 0.8 mm Pitch; Code_IPC: QFP80P3120X3120-128; ComponentLink1Description: Manufacturer Link; ComponentLink1URL: http://www.analog.com/; ComponentLink2Description: Datasheet; ComponentLink2URL: http://www.analog.com/UploadedFiles/Data_Sheets/285648807adsp_71.pdf
footprint S-128_N (QFP, 128-Leads, Body 28x28mm, Pitch 0.8mm, IPC Medium Density)
footprint S-128_L (QFP, 128-Leads, Body 28x28mm, Pitch 0.8mm, IPC High Density)
footprint S-128_M (QFP, 128-Leads, Body 28x28mm, Pitch 0.8mm, IPC Low Density)
3D model 2171-S128 (128-Pin Quad Flat Pack 0.8 mm Pitch)
pins: 1 HA2/ALE (in), 2 HA1 (in), 3 HA0 (in), 4 ~{HSEL} (in), 5 HD5 (io), 6 HD4 (io), 7 HD3 (io), 8 HD2 (io), 9 HD1 (io), 10 HD0 (io), 11 VDD (power), 12 GND (power), 13 VDD (power), 14 A0 (out), 15 A1 (io), 16 A2 (io), 17 A3 (io), 18 A4 (io), 19 A5 (io), 20 A6 (io), 21 A7 (io), 22 XTAL (in), 23 CLKIN (in), 24 CLKOUT (out), 25 GND (power), 26 A8 (io), 27 A9 (io), 28 A10 (io), 29 A11 (io), 30 A12 (io), 31 A13 (io), 32 NC, 33 MMAP (in), 34 NC, 35 ~{PWD} (in), 36 ~{IRQ}2 (io), 37 NC, 38 BMODE (in), 39 NC, 40 NC, 41 VDD (power), 42 GND (power), 43 ~{RESET} (in), 44 NC, 45 ~{HACK} (in), 46 HMD0 (out), 47 HMD1 (out), 48 DT0 (out), 49 TFS0 (io), 50 RFS0 (io), 51 DR0 (in), 52 SCLK0 (io), 53 DT1/FO (out), 54 TFS1/~{IRQ}1 (io), 55 RFS1/~{IRQ}0 (io), 56 GND (power), 57 DR1/FI (in), 58 SCLK1 (io), 59 FL0 (out), 60 FL1 (out), 61 FL2 (out), 62 NC, 63 ~{BGH} (out), 64 NC, 65 NC, 66 ~{BR} (in), 67 NC, 68 ~{BG} (out), 69 D0 (io), 70 D1 (io), 71 D2 (io), 72 GND (power), 73 D3 (io), 74 D4 (io), 75 D5 (io), 76 D6 (io), 77 D7 (io), 78 D8 (io), 79 D9 (io), 80 D10 (io), 81 GND (power), 82 VDD (power), 83 D11 (io), 84 D12 (io), 85 D13 (io), 86 D14 (io), 87 D15 (io), 88 D16 (io), 89 D17 (io), 90 D18 (io), 91 GND (power), 92 D19 (io), 93 D20 (io), 94 D21 (io), 95 D22 (io), 96 D23 (io), 97 NC, 98 NC, 99 NC, 100 NC, 101 NC, 102 NC, 103 ~{RD} (out), 104 ~{WR} (out), 105 GND (power), 106 GND (power), 107 VDD (power), 108 ~{PMS} (out), 109 ~{DMS} (out), 110 ~{BMS} (out), 111 PWDACK (out), 112 HD15 (io), 113 HD14 (io), 114 HD13 (io), 115 HD12 (io), 116 HD11 (io), 117 VDD (power), 118 HD10 (io), 119 HD9 (io), 120 HD8 (io), 121 HD7 (io), 122 HD6 (io), 123 HSIZE (in), 124 ~{HRD}/HRW (in), 125 ~{HWR}/~{HDS} (in), 126 GND (power), 127 GND (power), 128 NC

## ADSP-2171KST-104
designator U?
33 MIPS, 5V, 2 Serial Ports, Host Port; Published: 24-Aug-2001; LatestRevisionDate: 13-Apr-2006; LatestRevisionNote: IPC-7351 Footprint Added.; DatasheetVersion: 1995; PackageVersion: 2000; PackageReference: ST-128; Publisher: Altium Limited; PackageDescription: 128-Pin Thin Quad Flat Pack Rectangular 0.5 mm Pitch; ComponentLink1Description: Manufacturer Link; ComponentLink1URL: http://www.analog.com/; ComponentLink2Description: Datasheet; ComponentLink2URL: http://www.analog.com/UploadedFiles/Data_Sheets/285648807adsp_71.pdf
footprint ST-128_N (Thin QFP, 128-Leads, Body 20x14 mm, Pitch 0.5mm, IPC Medium Density)
footprint ST-128_L (Thin QFP, 128-Leads, Body 20x14 mm, Pitch 0.5mm, IPC High Density)
footprint ST-128_M (Thin QFP, 128-Leads, Body 20x14 mm, Pitch 0.5mm, IPC Low Density)
3D model 2171-ST128 (128-Pin Thin Quad Flat Pack Rectangular 0.5 mm Pitch)
pins: 1 GND (power), 2 GND (power), 3 HA2/ALE (in), 4 HA1 (in), 5 HA0 (in), 6 ~{HSEL} (in), 7 HD5 (io), 8 HD4 (io), 9 HD3 (io), 10 HD2 (io), 11 HD1 (io), 12 HD0 (io), 13 VDD (power), 14 GND (power), 15 VDD (power), 16 A0 (out), 17 A1 (io), 18 A2 (io), 19 A3 (io), 20 A4 (io), 21 A5 (io), 22 A6 (io), 23 A7 (io), 24 XTAL (in), 25 CLKIN (in), 26 CLKOUT (out), 27 GND (power), 28 A8 (io), 29 A9 (io), 30 A10 (io), 31 A11 (io), 32 A12 (io), 33 A13 (io), 34 NC, 35 MMAP (in), 36 NC, 37 NC, 38 ~{PWD} (in), 39 ~{IRQ}2 (io), 40 NC, 41 BMODE (in), 42 NC, 43 NC, 44 VDD (power), 45 GND (power), 46 ~{RESET} (in), 47 NC, 48 ~{HACK} (in), 49 HMD0 (out), 50 HMD1 (out), 51 DT0 (out), 52 TFS0 (io), 53 RFS0 (io), 54 DR0 (in), 55 SCLK0 (io), 56 DT1/FO (out), 57 TFS1/~{IRQ}1 (io), 58 RFS1/~{IRQ}0 (io), 59 GND (power), 60 DR1/FI (in), 61 SCLK1 (io), 62 FL0 (out), 63 FL1 (out), 64 FL2 (out), 65 NC, 66 ~{BGH} (out), 67 NC, 68 NC, 69 NC, 70 ~{BR} (in), 71 NC, 72 ~{BG} (out), 73 D0 (io), 74 D1 (io), 75 D2 (io), 76 GND (power), 77 D3 (io), 78 D4 (io), 79 D5 (io), 80 D6 (io), 81 D7 (io), 82 D8 (io), 83 D9 (io), 84 D10 (io), 85 GND (power), 86 VDD (power), 87 D11 (io), 88 D12 (io), 89 D13 (io), 90 D14 (io), 91 D15 (io), 92 D16 (io), 93 D17 (io), 94 D18 (io), 95 GND (power), 96 D19 (io), 97 D20 (io), 98 D21 (io), 99 D22 (io), 100 D23 (io), 101 NC, 102 NC, 103 NC, 104 NC, 105 NC, 106 ~{RD} (out), 107 ~{WR} (out), 108 GND (power), 109 GND (power), 110 VDD (power), 111 ~{PMS} (out), 112 ~{DMS} (out), 113 ~{BMS} (out), 114 PWDACK (out), 115 HD15 (io), 116 HD14 (io), 117 HD13 (io), 118 HD12 (io), 119 HD11 (io), 120 VDD (power), 121 HD10 (io), 122 HD9 (io), 123 HD8 (io), 124 HD7 (io), 125 HD6 (io), 126 HSIZE (in), 127 ~{HRD}/HRW (in), 128 ~{HWR}/~{HDS} (in)

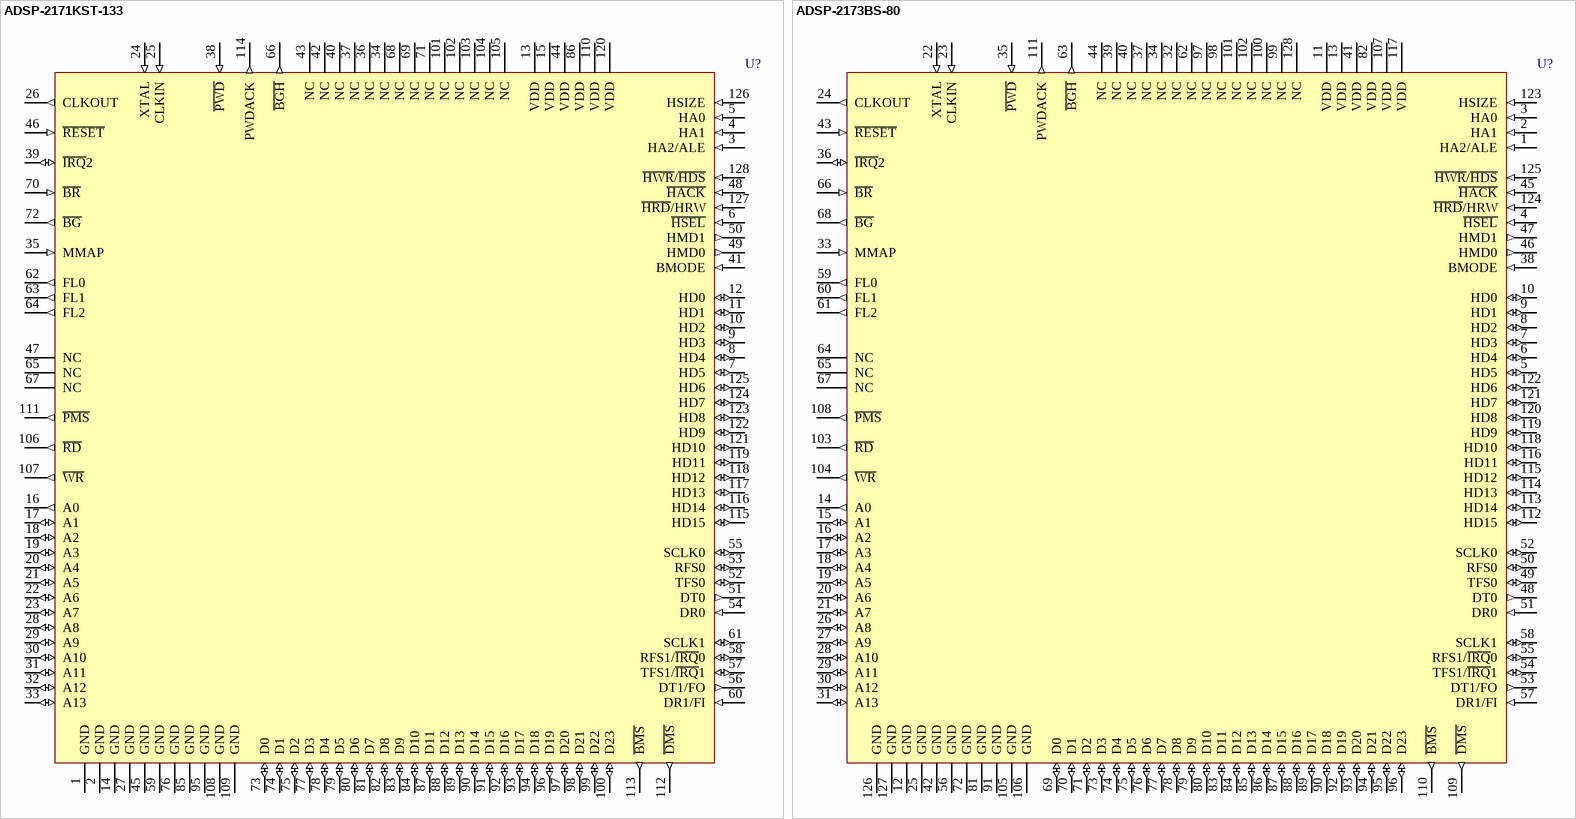
[diagram p23: symbols ADSP-2171KST-133 to ADSP-2173BS-80]

## ADSP-2171KST-133
designator U?
33 MIPS, 5V, 2 Serial Ports, Host Port; Published: 24-Aug-2001; LatestRevisionDate: 13-Apr-2006; LatestRevisionNote: IPC-7351 Footprint Added.; DatasheetVersion: 1995; PackageVersion: 2000; PackageReference: ST-128; Publisher: Altium Limited; PackageDescription: 128-Pin Thin Quad Flat Pack Rectangular 0.5 mm Pitch; ComponentLink1Description: Manufacturer Link; ComponentLink1URL: http://www.analog.com/; ComponentLink2Description: Datasheet; ComponentLink2URL: http://www.analog.com/UploadedFiles/Data_Sheets/285648807adsp_71.pdf
footprint ST-128_N (Thin QFP, 128-Leads, Body 20x14 mm, Pitch 0.5mm, IPC Medium Density)
footprint ST-128_L (Thin QFP, 128-Leads, Body 20x14 mm, Pitch 0.5mm, IPC High Density)
footprint ST-128_M (Thin QFP, 128-Leads, Body 20x14 mm, Pitch 0.5mm, IPC Low Density)
3D model 2171-ST128 (128-Pin Thin Quad Flat Pack Rectangular 0.5 mm Pitch)
pins: 1 GND (power), 2 GND (power), 3 HA2/ALE (in), 4 HA1 (in), 5 HA0 (in), 6 ~{HSEL} (in), 7 HD5 (io), 8 HD4 (io), 9 HD3 (io), 10 HD2 (io), 11 HD1 (io), 12 HD0 (io), 13 VDD (power), 14 GND (power), 15 VDD (power), 16 A0 (out), 17 A1 (io), 18 A2 (io), 19 A3 (io), 20 A4 (io), 21 A5 (io), 22 A6 (io), 23 A7 (io), 24 XTAL (in), 25 CLKIN (in), 26 CLKOUT (out), 27 GND (power), 28 A8 (io), 29 A9 (io), 30 A10 (io), 31 A11 (io), 32 A12 (io), 33 A13 (io), 34 NC, 35 MMAP (in), 36 NC, 37 NC, 38 ~{PWD} (in), 39 ~{IRQ}2 (io), 40 NC, 41 BMODE (in), 42 NC, 43 NC, 44 VDD (power), 45 GND (power), 46 ~{RESET} (in), 47 NC, 48 ~{HACK} (in), 49 HMD0 (out), 50 HMD1 (out), 51 DT0 (out), 52 TFS0 (io), 53 RFS0 (io), 54 DR0 (in), 55 SCLK0 (io), 56 DT1/FO (out), 57 TFS1/~{IRQ}1 (io), 58 RFS1/~{IRQ}0 (io), 59 GND (power), 60 DR1/FI (in), 61 SCLK1 (io), 62 FL0 (out), 63 FL1 (out), 64 FL2 (out), 65 NC, 66 ~{BGH} (out), 67 NC, 68 NC, 69 NC, 70 ~{BR} (in), 71 NC, 72 ~{BG} (out), 73 D0 (io), 74 D1 (io), 75 D2 (io), 76 GND (power), 77 D3 (io), 78 D4 (io), 79 D5 (io), 80 D6 (io), 81 D7 (io), 82 D8 (io), 83 D9 (io), 84 D10 (io), 85 GND (power), 86 VDD (power), 87 D11 (io), 88 D12 (io), 89 D13 (io), 90 D14 (io), 91 D15 (io), 92 D16 (io), 93 D17 (io), 94 D18 (io), 95 GND (power), 96 D19 (io), 97 D20 (io), 98 D21 (io), 99 D22 (io), 100 D23 (io), 101 NC, 102 NC, 103 NC, 104 NC, 105 NC, 106 ~{RD} (out), 107 ~{WR} (out), 108 GND (power), 109 GND (power), 110 VDD (power), 111 ~{PMS} (out), 112 ~{DMS} (out), 113 ~{BMS} (out), 114 PWDACK (out), 115 HD15 (io), 116 HD14 (io), 117 HD13 (io), 118 HD12 (io), 119 HD11 (io), 120 VDD (power), 121 HD10 (io), 122 HD9 (io), 123 HD8 (io), 124 HD7 (io), 125 HD6 (io), 126 HSIZE (in), 127 ~{HRD}/HRW (in), 128 ~{HWR}/~{HDS} (in)

## ADSP-2173BS-80
designator U?
20 MIPS, 3.3V, 2 Serial Ports, Host Port; Published: 24-Aug-2001; LatestRevisionDate: 13-Apr-2006; LatestRevisionNote: IPC-7351 Footprint Added.; DatasheetVersion: 1995; PackageVersion: 2000; PackageReference: S-128; Publisher: Altium Limited; PackageDescription: 128-Pin Quad Flat Pack 0.8 mm Pitch; Code_IPC: QFP80P3120X3120-128; ComponentLink1Description: Manufacturer Link; ComponentLink1URL: http://www.analog.com/; ComponentLink2Description: Datasheet; ComponentLink2URL: http://www.analog.com/UploadedFiles/Data_Sheets/285648807adsp_71.pdf
footprint S-128_N (QFP, 128-Leads, Body 28x28mm, Pitch 0.8mm, IPC Medium Density)
footprint S-128_L (QFP, 128-Leads, Body 28x28mm, Pitch 0.8mm, IPC High Density)
footprint S-128_M (QFP, 128-Leads, Body 28x28mm, Pitch 0.8mm, IPC Low Density)
3D model 2173-S128 (128-Pin Quad Flat Pack 0.8 mm Pitch)
pins: 1 HA2/ALE (in), 2 HA1 (in), 3 HA0 (in), 4 ~{HSEL} (in), 5 HD5 (io), 6 HD4 (io), 7 HD3 (io), 8 HD2 (io), 9 HD1 (io), 10 HD0 (io), 11 VDD (power), 12 GND (power), 13 VDD (power), 14 A0 (out), 15 A1 (io), 16 A2 (io), 17 A3 (io), 18 A4 (io), 19 A5 (io), 20 A6 (io), 21 A7 (io), 22 XTAL (in), 23 CLKIN (in), 24 CLKOUT (out), 25 GND (power), 26 A8 (io), 27 A9 (io), 28 A10 (io), 29 A11 (io), 30 A12 (io), 31 A13 (io), 32 NC, 33 MMAP (in), 34 NC, 35 ~{PWD} (in), 36 ~{IRQ}2 (io), 37 NC, 38 BMODE (in), 39 NC, 40 NC, 41 VDD (power), 42 GND (power), 43 ~{RESET} (in), 44 NC, 45 ~{HACK} (in), 46 HMD0 (out), 47 HMD1 (out), 48 DT0 (out), 49 TFS0 (io), 50 RFS0 (io), 51 DR0 (in), 52 SCLK0 (io), 53 DT1/FO (out), 54 TFS1/~{IRQ}1 (io), 55 RFS1/~{IRQ}0 (io), 56 GND (power), 57 DR1/FI (in), 58 SCLK1 (io), 59 FL0 (out), 60 FL1 (out), 61 FL2 (out), 62 NC, 63 ~{BGH} (out), 64 NC, 65 NC, 66 ~{BR} (in), 67 NC, 68 ~{BG} (out), 69 D0 (io), 70 D1 (io), 71 D2 (io), 72 GND (power), 73 D3 (io), 74 D4 (io), 75 D5 (io), 76 D6 (io), 77 D7 (io), 78 D8 (io), 79 D9 (io), 80 D10 (io), 81 GND (power), 82 VDD (power), 83 D11 (io), 84 D12 (io), 85 D13 (io), 86 D14 (io), 87 D15 (io), 88 D16 (io), 89 D17 (io), 90 D18 (io), 91 GND (power), 92 D19 (io), 93 D20 (io), 94 D21 (io), 95 D22 (io), 96 D23 (io), 97 NC, 98 NC, 99 NC, 100 NC, 101 NC, 102 NC, 103 ~{RD} (out), 104 ~{WR} (out), 105 GND (power), 106 GND (power), 107 VDD (power), 108 ~{PMS} (out), 109 ~{DMS} (out), 110 ~{BMS} (out), 111 PWDACK (out), 112 HD15 (io), 113 HD14 (io), 114 HD13 (io), 115 HD12 (io), 116 HD11 (io), 117 VDD (power), 118 HD10 (io), 119 HD9 (io), 120 HD8 (io), 121 HD7 (io), 122 HD6 (io), 123 HSIZE (in), 124 ~{HRD}/HRW (in), 125 ~{HWR}/~{HDS} (in), 126 GND (power), 127 GND (power), 128 NC

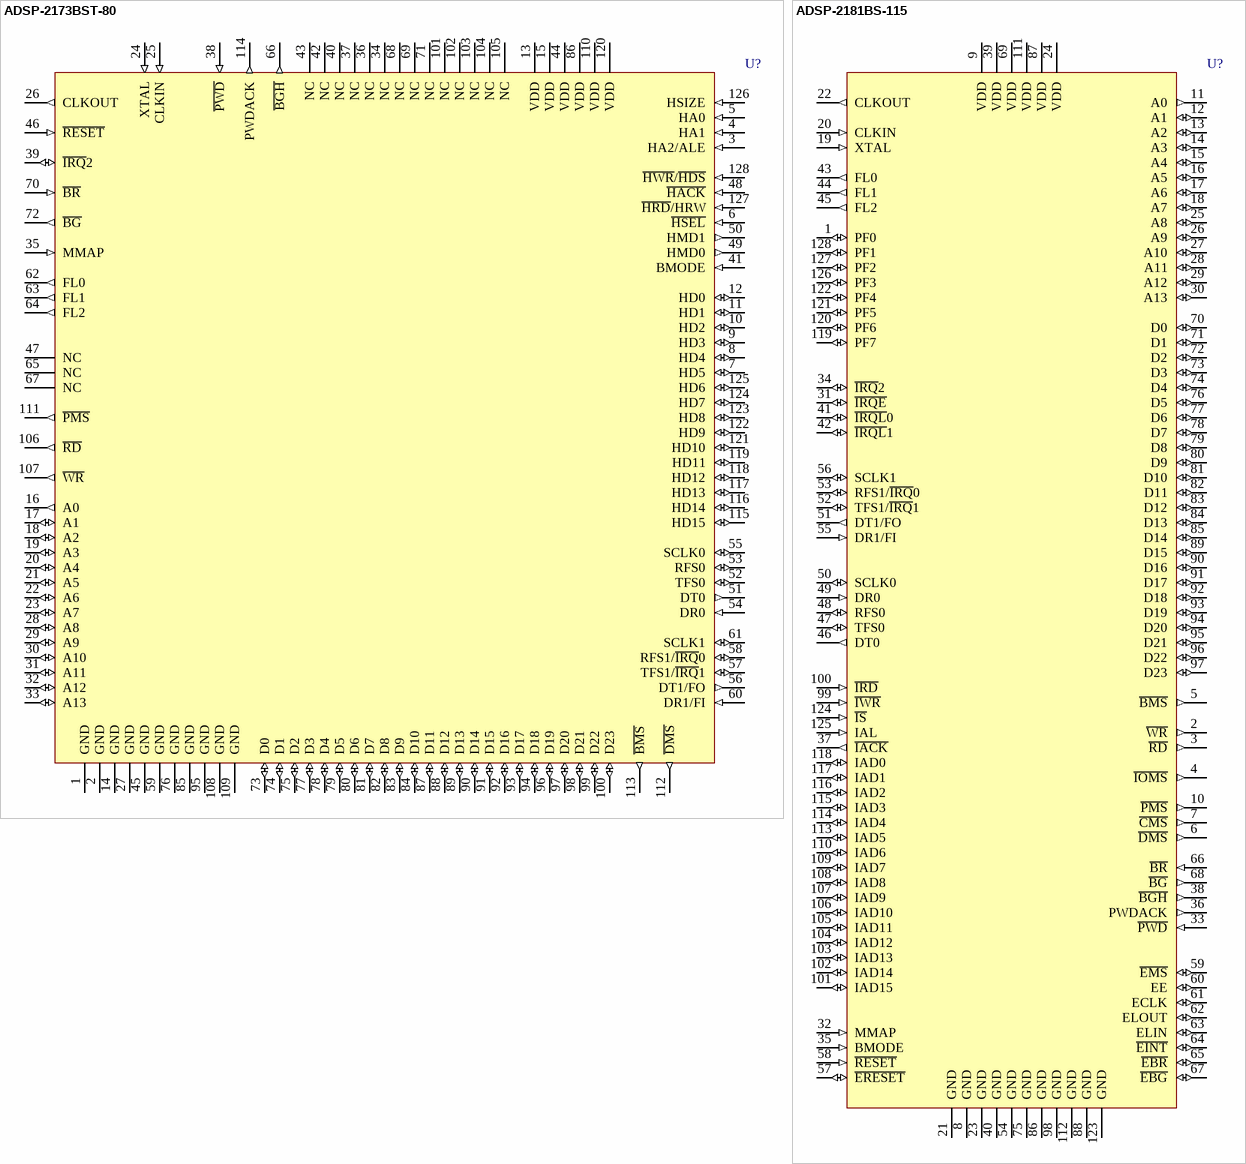
[diagram p24: symbols ADSP-2173BST-80 to ADSP-2181BS-115]

## ADSP-2173BST-80
designator U?
20 MIPS, 3.3V, 2 Serial Ports, Host Port; Published: 24-Aug-2001; LatestRevisionDate: 13-Apr-2006; LatestRevisionNote: IPC-7351 Footprint Added.; DatasheetVersion: 1995; PackageVersion: 2000; PackageReference: ST-128; Publisher: Altium Limited; PackageDescription: 128-Pin Thin Quad Flat Pack Rectangular 0.5 mm Pitch; ComponentLink1Description: Manufacturer Link; ComponentLink1URL: http://www.analog.com/; ComponentLink2Description: Datasheet; ComponentLink2URL: http://www.analog.com/UploadedFiles/Data_Sheets/285648807adsp_71.pdf
footprint ST-128_N (Thin QFP, 128-Leads, Body 20x14 mm, Pitch 0.5mm, IPC Medium Density)
footprint ST-128_L (Thin QFP, 128-Leads, Body 20x14 mm, Pitch 0.5mm, IPC High Density)
footprint ST-128_M (Thin QFP, 128-Leads, Body 20x14 mm, Pitch 0.5mm, IPC Low Density)
3D model 2173-ST128 (128-Pin Thin Quad Flat Pack Rectangular 0.5 mm Pitch)
pins: 1 GND (power), 2 GND (power), 3 HA2/ALE (in), 4 HA1 (in), 5 HA0 (in), 6 ~{HSEL} (in), 7 HD5 (io), 8 HD4 (io), 9 HD3 (io), 10 HD2 (io), 11 HD1 (io), 12 HD0 (io), 13 VDD (power), 14 GND (power), 15 VDD (power), 16 A0 (out), 17 A1 (io), 18 A2 (io), 19 A3 (io), 20 A4 (io), 21 A5 (io), 22 A6 (io), 23 A7 (io), 24 XTAL (in), 25 CLKIN (in), 26 CLKOUT (out), 27 GND (power), 28 A8 (io), 29 A9 (io), 30 A10 (io), 31 A11 (io), 32 A12 (io), 33 A13 (io), 34 NC, 35 MMAP (in), 36 NC, 37 NC, 38 ~{PWD} (in), 39 ~{IRQ}2 (io), 40 NC, 41 BMODE (in), 42 NC, 43 NC, 44 VDD (power), 45 GND (power), 46 ~{RESET} (in), 47 NC, 48 ~{HACK} (in), 49 HMD0 (out), 50 HMD1 (out), 51 DT0 (out), 52 TFS0 (io), 53 RFS0 (io), 54 DR0 (in), 55 SCLK0 (io), 56 DT1/FO (out), 57 TFS1/~{IRQ}1 (io), 58 RFS1/~{IRQ}0 (io), 59 GND (power), 60 DR1/FI (in), 61 SCLK1 (io), 62 FL0 (out), 63 FL1 (out), 64 FL2 (out), 65 NC, 66 ~{BGH} (out), 67 NC, 68 NC, 69 NC, 70 ~{BR} (in), 71 NC, 72 ~{BG} (out), 73 D0 (io), 74 D1 (io), 75 D2 (io), 76 GND (power), 77 D3 (io), 78 D4 (io), 79 D5 (io), 80 D6 (io), 81 D7 (io), 82 D8 (io), 83 D9 (io), 84 D10 (io), 85 GND (power), 86 VDD (power), 87 D11 (io), 88 D12 (io), 89 D13 (io), 90 D14 (io), 91 D15 (io), 92 D16 (io), 93 D17 (io), 94 D18 (io), 95 GND (power), 96 D19 (io), 97 D20 (io), 98 D21 (io), 99 D22 (io), 100 D23 (io), 101 NC, 102 NC, 103 NC, 104 NC, 105 NC, 106 ~{RD} (out), 107 ~{WR} (out), 108 GND (power), 109 GND (power), 110 VDD (power), 111 ~{PMS} (out), 112 ~{DMS} (out), 113 ~{BMS} (out), 114 PWDACK (out), 115 HD15 (io), 116 HD14 (io), 117 HD13 (io), 118 HD12 (io), 119 HD11 (io), 120 VDD (power), 121 HD10 (io), 122 HD9 (io), 123 HD8 (io), 124 HD7 (io), 125 HD6 (io), 126 HSIZE (in), 127 ~{HRD}/HRW (in), 128 ~{HWR}/~{HDS} (in)

## ADSP-2181BS-115
designator U?
40 MIPS, 5V, 2 Serial Ports, Host Port, 80 KB RAM; Published: 24-Aug-2001; LatestRevisionDate: 13-Apr-2006; LatestRevisionNote: IPC-7351 Footprint Added.; DatasheetVersion: 1998; PackageVersion: 2000; PackageReference: S-128; Publisher: Altium Limited; PackageDescription: 128-Pin Quad Flat Pack 0.8 mm Pitch; Code_IPC: QFP80P3120X3120-128; ComponentLink1Description: Manufacturer Link; ComponentLink1URL: http://www.analog.com/; ComponentLink2Description: Datasheet; ComponentLink2URL: http://www.analog.com/UploadedFiles/Data_Sheets/505104853ADSP2181_d.pdf
footprint S-128_N (QFP, 128-Leads, Body 28x28mm, Pitch 0.8mm, IPC Medium Density)
footprint S-128_L (QFP, 128-Leads, Body 28x28mm, Pitch 0.8mm, IPC High Density)
footprint S-128_M (QFP, 128-Leads, Body 28x28mm, Pitch 0.8mm, IPC Low Density)
3D model 2181-S128 (128-Pin Quad Flat Pack 0.8 mm Pitch)
pins: 1 PF0 (io), 2 ~{WR} (out), 3 ~{RD} (out), 4 ~{IOMS} (out), 5 ~{BMS} (out), 6 ~{DMS} (out), 7 ~{CMS} (out), 8 GND (power), 9 VDD (power), 10 ~{PMS} (out), 11 A0 (out), 12 A1 (io), 13 A2 (io), 14 A3 (io), 15 A4 (io), 16 A5 (io), 17 A6 (io), 18 A7 (io), 19 XTAL (in), 20 CLKIN (in), 21 GND (power), 22 CLKOUT (out), 23 GND (power), 24 VDD (power), 25 A8 (io), 26 A9 (io), 27 A10 (io), 28 A11 (io), 29 A12 (io), 30 A13 (io), 31 ~{IRQE} (io), 32 MMAP (in), 33 ~{PWD} (in), 34 ~{IRQ}2 (io), 35 BMODE (in), 36 PWDACK (out), 37 ~{IACK} (out), 38 ~{BGH} (out), 39 VDD (power), 40 GND (power), 41 ~{IRQL}0 (io), 42 ~{IRQL}1 (io), 43 FL0 (out), 44 FL1 (out), 45 FL2 (out), 46 DT0 (out), 47 TFS0 (io), 48 RFS0 (io), 49 DR0 (in), 50 SCLK0 (io), 51 DT1/FO (out), 52 TFS1/~{IRQ}1 (io), 53 RFS1/~{IRQ}0 (io), 54 GND (power), 55 DR1/FI (in), 56 SCLK1 (io), 57 ~{ERESET} (io), 58 ~{RESET} (in), 59 ~{EMS} (io), 60 EE (io), 61 ECLK (io), 62 ELOUT (io), 63 ELIN (io), 64 ~{EINT} (io), 65 ~{EBR} (io), 66 ~{BR} (in), 67 ~{EBG} (io), 68 ~{BG} (out), 69 VDD (power), 70 D0 (io), 71 D1 (io), 72 D2 (io), 73 D3 (io), 74 D4 (io), 75 GND (power), 76 D5 (io), 77 D6 (io), 78 D7 (io), 79 D8 (io), 80 D9 (io), 81 D10 (io), 82 D11 (io), 83 D12 (io), 84 D13 (io), 85 D14 (io), 86 GND (power), 87 VDD (power), 88 GND (power), 89 D15 (io), 90 D16 (io), 91 D17 (io), 92 D18 (io), 93 D19 (io), 94 D20 (io), 95 D21 (io), 96 D22 (io), 97 D23 (io), 98 GND (power), 99 ~{IWR} (in), 100 ~{IRD} (in), 101 IAD15 (io), 102 IAD14 (io), 103 IAD13 (io), 104 IAD12 (io), 105 IAD11 (io), 106 IAD10 (io), 107 IAD9 (io), 108 IAD8 (io), 109 IAD7 (io), 110 IAD6 (io), 111 VDD (power), 112 GND (power), 113 IAD5 (io), 114 IAD4 (io), 115 IAD3 (io), 116 IAD2 (io), 117 IAD1 (io), 118 IAD0 (io), 119 PF7 (io), 120 PF6 (io), 121 PF5 (io), 122 PF4 (io), 123 GND (power), 124 ~{IS} (in), 125 IAL (in), 126 PF3 (io), 127 PF2 (io), 128 PF1 (io)

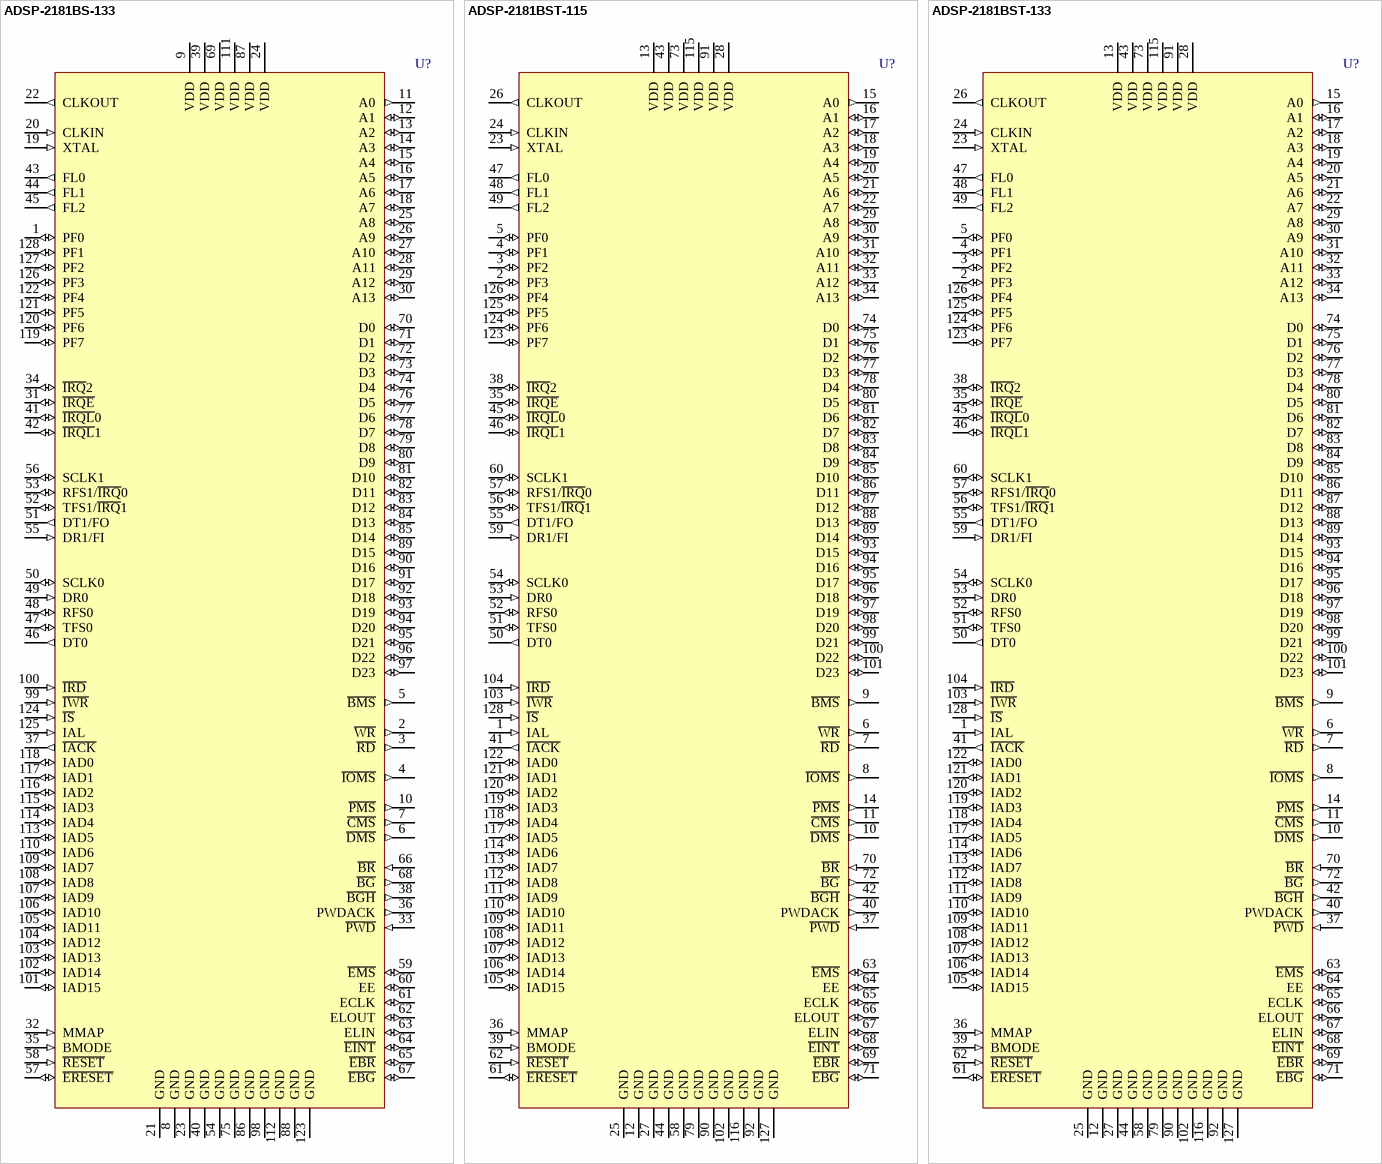
[diagram p25: symbols ADSP-2181BS-133 to ADSP-2181BST-133]

## ADSP-2181BS-133
designator U?
40 MIPS, 5V, 2 Serial Ports, Host Port, 80 KB RAM; Published: 24-Aug-2001; LatestRevisionDate: 13-Apr-2006; LatestRevisionNote: IPC-7351 Footprint Added.; DatasheetVersion: 1998; PackageVersion: 2000; PackageReference: S-128; Publisher: Altium Limited; PackageDescription: 128-Pin Quad Flat Pack 0.8 mm Pitch; Code_IPC: QFP80P3120X3120-128; ComponentLink1Description: Manufacturer Link; ComponentLink1URL: http://www.analog.com/; ComponentLink2Description: Datasheet; ComponentLink2URL: http://www.analog.com/UploadedFiles/Data_Sheets/505104853ADSP2181_d.pdf
footprint S-128_N (QFP, 128-Leads, Body 28x28mm, Pitch 0.8mm, IPC Medium Density)
footprint S-128_L (QFP, 128-Leads, Body 28x28mm, Pitch 0.8mm, IPC High Density)
footprint S-128_M (QFP, 128-Leads, Body 28x28mm, Pitch 0.8mm, IPC Low Density)
3D model 2181-S128 (128-Pin Quad Flat Pack 0.8 mm Pitch)
pins: 1 PF0 (io), 2 ~{WR} (out), 3 ~{RD} (out), 4 ~{IOMS} (out), 5 ~{BMS} (out), 6 ~{DMS} (out), 7 ~{CMS} (out), 8 GND (power), 9 VDD (power), 10 ~{PMS} (out), 11 A0 (out), 12 A1 (io), 13 A2 (io), 14 A3 (io), 15 A4 (io), 16 A5 (io), 17 A6 (io), 18 A7 (io), 19 XTAL (in), 20 CLKIN (in), 21 GND (power), 22 CLKOUT (out), 23 GND (power), 24 VDD (power), 25 A8 (io), 26 A9 (io), 27 A10 (io), 28 A11 (io), 29 A12 (io), 30 A13 (io), 31 ~{IRQE} (io), 32 MMAP (in), 33 ~{PWD} (in), 34 ~{IRQ}2 (io), 35 BMODE (in), 36 PWDACK (out), 37 ~{IACK} (out), 38 ~{BGH} (out), 39 VDD (power), 40 GND (power), 41 ~{IRQL}0 (io), 42 ~{IRQL}1 (io), 43 FL0 (out), 44 FL1 (out), 45 FL2 (out), 46 DT0 (out), 47 TFS0 (io), 48 RFS0 (io), 49 DR0 (in), 50 SCLK0 (io), 51 DT1/FO (out), 52 TFS1/~{IRQ}1 (io), 53 RFS1/~{IRQ}0 (io), 54 GND (power), 55 DR1/FI (in), 56 SCLK1 (io), 57 ~{ERESET} (io), 58 ~{RESET} (in), 59 ~{EMS} (io), 60 EE (io), 61 ECLK (io), 62 ELOUT (io), 63 ELIN (io), 64 ~{EINT} (io), 65 ~{EBR} (io), 66 ~{BR} (in), 67 ~{EBG} (io), 68 ~{BG} (out), 69 VDD (power), 70 D0 (io), 71 D1 (io), 72 D2 (io), 73 D3 (io), 74 D4 (io), 75 GND (power), 76 D5 (io), 77 D6 (io), 78 D7 (io), 79 D8 (io), 80 D9 (io), 81 D10 (io), 82 D11 (io), 83 D12 (io), 84 D13 (io), 85 D14 (io), 86 GND (power), 87 VDD (power), 88 GND (power), 89 D15 (io), 90 D16 (io), 91 D17 (io), 92 D18 (io), 93 D19 (io), 94 D20 (io), 95 D21 (io), 96 D22 (io), 97 D23 (io), 98 GND (power), 99 ~{IWR} (in), 100 ~{IRD} (in), 101 IAD15 (io), 102 IAD14 (io), 103 IAD13 (io), 104 IAD12 (io), 105 IAD11 (io), 106 IAD10 (io), 107 IAD9 (io), 108 IAD8 (io), 109 IAD7 (io), 110 IAD6 (io), 111 VDD (power), 112 GND (power), 113 IAD5 (io), 114 IAD4 (io), 115 IAD3 (io), 116 IAD2 (io), 117 IAD1 (io), 118 IAD0 (io), 119 PF7 (io), 120 PF6 (io), 121 PF5 (io), 122 PF4 (io), 123 GND (power), 124 ~{IS} (in), 125 IAL (in), 126 PF3 (io), 127 PF2 (io), 128 PF1 (io)

## ADSP-2181BST-115
designator U?
40 MIPS, 5V, 2 Serial Ports, Host Port, 80 KB RAM; Published: 24-Aug-2001; LatestRevisionDate: 13-Apr-2006; LatestRevisionNote: IPC-7351 Footprint Added.; DatasheetVersion: 1998; PackageVersion: 2000; PackageReference: ST-128; Publisher: Altium Limited; PackageDescription: 128-Pin Thin Quad Flat Pack Rectangular 0.5 mm Pitch; ComponentLink1Description: Manufacturer Link; ComponentLink1URL: http://www.analog.com/; ComponentLink2Description: Datasheet; ComponentLink2URL: http://www.analog.com/UploadedFiles/Data_Sheets/505104853ADSP2181_d.pdf
footprint ST-128_N (Thin QFP, 128-Leads, Body 20x14 mm, Pitch 0.5mm, IPC Medium Density)
footprint ST-128_L (Thin QFP, 128-Leads, Body 20x14 mm, Pitch 0.5mm, IPC High Density)
footprint ST-128_M (Thin QFP, 128-Leads, Body 20x14 mm, Pitch 0.5mm, IPC Low Density)
3D model 2181-ST128 (128-Pin Thin Quad Flat Pack Rectangular 0.5 mm Pitch)
pins: 1 IAL (in), 2 PF3 (io), 3 PF2 (io), 4 PF1 (io), 5 PF0 (io), 6 ~{WR} (out), 7 ~{RD} (out), 8 ~{IOMS} (out), 9 ~{BMS} (out), 10 ~{DMS} (out), 11 ~{CMS} (out), 12 GND (power), 13 VDD (power), 14 ~{PMS} (out), 15 A0 (out), 16 A1 (io), 17 A2 (io), 18 A3 (io), 19 A4 (io), 20 A5 (io), 21 A6 (io), 22 A7 (io), 23 XTAL (in), 24 CLKIN (in), 25 GND (power), 26 CLKOUT (out), 27 GND (power), 28 VDD (power), 29 A8 (io), 30 A9 (io), 31 A10 (io), 32 A11 (io), 33 A12 (io), 34 A13 (io), 35 ~{IRQE} (io), 36 MMAP (in), 37 ~{PWD} (in), 38 ~{IRQ}2 (io), 39 BMODE (in), 40 PWDACK (out), 41 ~{IACK} (out), 42 ~{BGH} (out), 43 VDD (power), 44 GND (power), 45 ~{IRQL}0 (io), 46 ~{IRQL}1 (io), 47 FL0 (out), 48 FL1 (out), 49 FL2 (out), 50 DT0 (out), 51 TFS0 (io), 52 RFS0 (io), 53 DR0 (in), 54 SCLK0 (io), 55 DT1/FO (out), 56 TFS1/~{IRQ}1 (io), 57 RFS1/~{IRQ}0 (io), 58 GND (power), 59 DR1/FI (in), 60 SCLK1 (io), 61 ~{ERESET} (io), 62 ~{RESET} (in), 63 ~{EMS} (io), 64 EE (io), 65 ECLK (io), 66 ELOUT (io), 67 ELIN (io), 68 ~{EINT} (io), 69 ~{EBR} (io), 70 ~{BR} (in), 71 ~{EBG} (io), 72 ~{BG} (out), 73 VDD (power), 74 D0 (io), 75 D1 (io), 76 D2 (io), 77 D3 (io), 78 D4 (io), 79 GND (power), 80 D5 (io), 81 D6 (io), 82 D7 (io), 83 D8 (io), 84 D9 (io), 85 D10 (io), 86 D11 (io), 87 D12 (io), 88 D13 (io), 89 D14 (io), 90 GND (power), 91 VDD (power), 92 GND (power), 93 D15 (io), 94 D16 (io), 95 D17 (io), 96 D18 (io), 97 D19 (io), 98 D20 (io), 99 D21 (io), 100 D22 (io), 101 D23 (io), 102 GND (power), 103 ~{IWR} (in), 104 ~{IRD} (in), 105 IAD15 (io), 106 IAD14 (io), 107 IAD13 (io), 108 IAD12 (io), 109 IAD11 (io), 110 IAD10 (io), 111 IAD9 (io), 112 IAD8 (io), 113 IAD7 (io), 114 IAD6 (io), 115 VDD (power), 116 GND (power), 117 IAD5 (io), 118 IAD4 (io), 119 IAD3 (io), 120 IAD2 (io), 121 IAD1 (io), 122 IAD0 (io), 123 PF7 (io), 124 PF6 (io), 125 PF5 (io), 126 PF4 (io), 127 GND (power), 128 ~{IS} (in)

## ADSP-2181BST-133
designator U?
40 MIPS, 5V, 2 Serial Ports, Host Port, 80 KB RAM; Published: 24-Aug-2001; LatestRevisionDate: 13-Apr-2006; LatestRevisionNote: IPC-7351 Footprint Added.; DatasheetVersion: 1998; PackageVersion: 2000; PackageReference: ST-128; Publisher: Altium Limited; PackageDescription: 128-Pin Thin Quad Flat Pack Rectangular 0.5 mm Pitch; ComponentLink1Description: Manufacturer Link; ComponentLink1URL: http://www.analog.com/; ComponentLink2Description: Datasheet; ComponentLink2URL: http://www.analog.com/UploadedFiles/Data_Sheets/505104853ADSP2181_d.pdf
footprint ST-128_N (Thin QFP, 128-Leads, Body 20x14 mm, Pitch 0.5mm, IPC Medium Density)
footprint ST-128_L (Thin QFP, 128-Leads, Body 20x14 mm, Pitch 0.5mm, IPC High Density)
footprint ST-128_M (Thin QFP, 128-Leads, Body 20x14 mm, Pitch 0.5mm, IPC Low Density)
3D model 2181-ST128 (128-Pin Thin Quad Flat Pack Rectangular 0.5 mm Pitch)
pins: 1 IAL (in), 2 PF3 (io), 3 PF2 (io), 4 PF1 (io), 5 PF0 (io), 6 ~{WR} (out), 7 ~{RD} (out), 8 ~{IOMS} (out), 9 ~{BMS} (out), 10 ~{DMS} (out), 11 ~{CMS} (out), 12 GND (power), 13 VDD (power), 14 ~{PMS} (out), 15 A0 (out), 16 A1 (io), 17 A2 (io), 18 A3 (io), 19 A4 (io), 20 A5 (io), 21 A6 (io), 22 A7 (io), 23 XTAL (in), 24 CLKIN (in), 25 GND (power), 26 CLKOUT (out), 27 GND (power), 28 VDD (power), 29 A8 (io), 30 A9 (io), 31 A10 (io), 32 A11 (io), 33 A12 (io), 34 A13 (io), 35 ~{IRQE} (io), 36 MMAP (in), 37 ~{PWD} (in), 38 ~{IRQ}2 (io), 39 BMODE (in), 40 PWDACK (out), 41 ~{IACK} (out), 42 ~{BGH} (out), 43 VDD (power), 44 GND (power), 45 ~{IRQL}0 (io), 46 ~{IRQL}1 (io), 47 FL0 (out), 48 FL1 (out), 49 FL2 (out), 50 DT0 (out), 51 TFS0 (io), 52 RFS0 (io), 53 DR0 (in), 54 SCLK0 (io), 55 DT1/FO (out), 56 TFS1/~{IRQ}1 (io), 57 RFS1/~{IRQ}0 (io), 58 GND (power), 59 DR1/FI (in), 60 SCLK1 (io), 61 ~{ERESET} (io), 62 ~{RESET} (in), 63 ~{EMS} (io), 64 EE (io), 65 ECLK (io), 66 ELOUT (io), 67 ELIN (io), 68 ~{EINT} (io), 69 ~{EBR} (io), 70 ~{BR} (in), 71 ~{EBG} (io), 72 ~{BG} (out), 73 VDD (power), 74 D0 (io), 75 D1 (io), 76 D2 (io), 77 D3 (io), 78 D4 (io), 79 GND (power), 80 D5 (io), 81 D6 (io), 82 D7 (io), 83 D8 (io), 84 D9 (io), 85 D10 (io), 86 D11 (io), 87 D12 (io), 88 D13 (io), 89 D14 (io), 90 GND (power), 91 VDD (power), 92 GND (power), 93 D15 (io), 94 D16 (io), 95 D17 (io), 96 D18 (io), 97 D19 (io), 98 D20 (io), 99 D21 (io), 100 D22 (io), 101 D23 (io), 102 GND (power), 103 ~{IWR} (in), 104 ~{IRD} (in), 105 IAD15 (io), 106 IAD14 (io), 107 IAD13 (io), 108 IAD12 (io), 109 IAD11 (io), 110 IAD10 (io), 111 IAD9 (io), 112 IAD8 (io), 113 IAD7 (io), 114 IAD6 (io), 115 VDD (power), 116 GND (power), 117 IAD5 (io), 118 IAD4 (io), 119 IAD3 (io), 120 IAD2 (io), 121 IAD1 (io), 122 IAD0 (io), 123 PF7 (io), 124 PF6 (io), 125 PF5 (io), 126 PF4 (io), 127 GND (power), 128 ~{IS} (in)

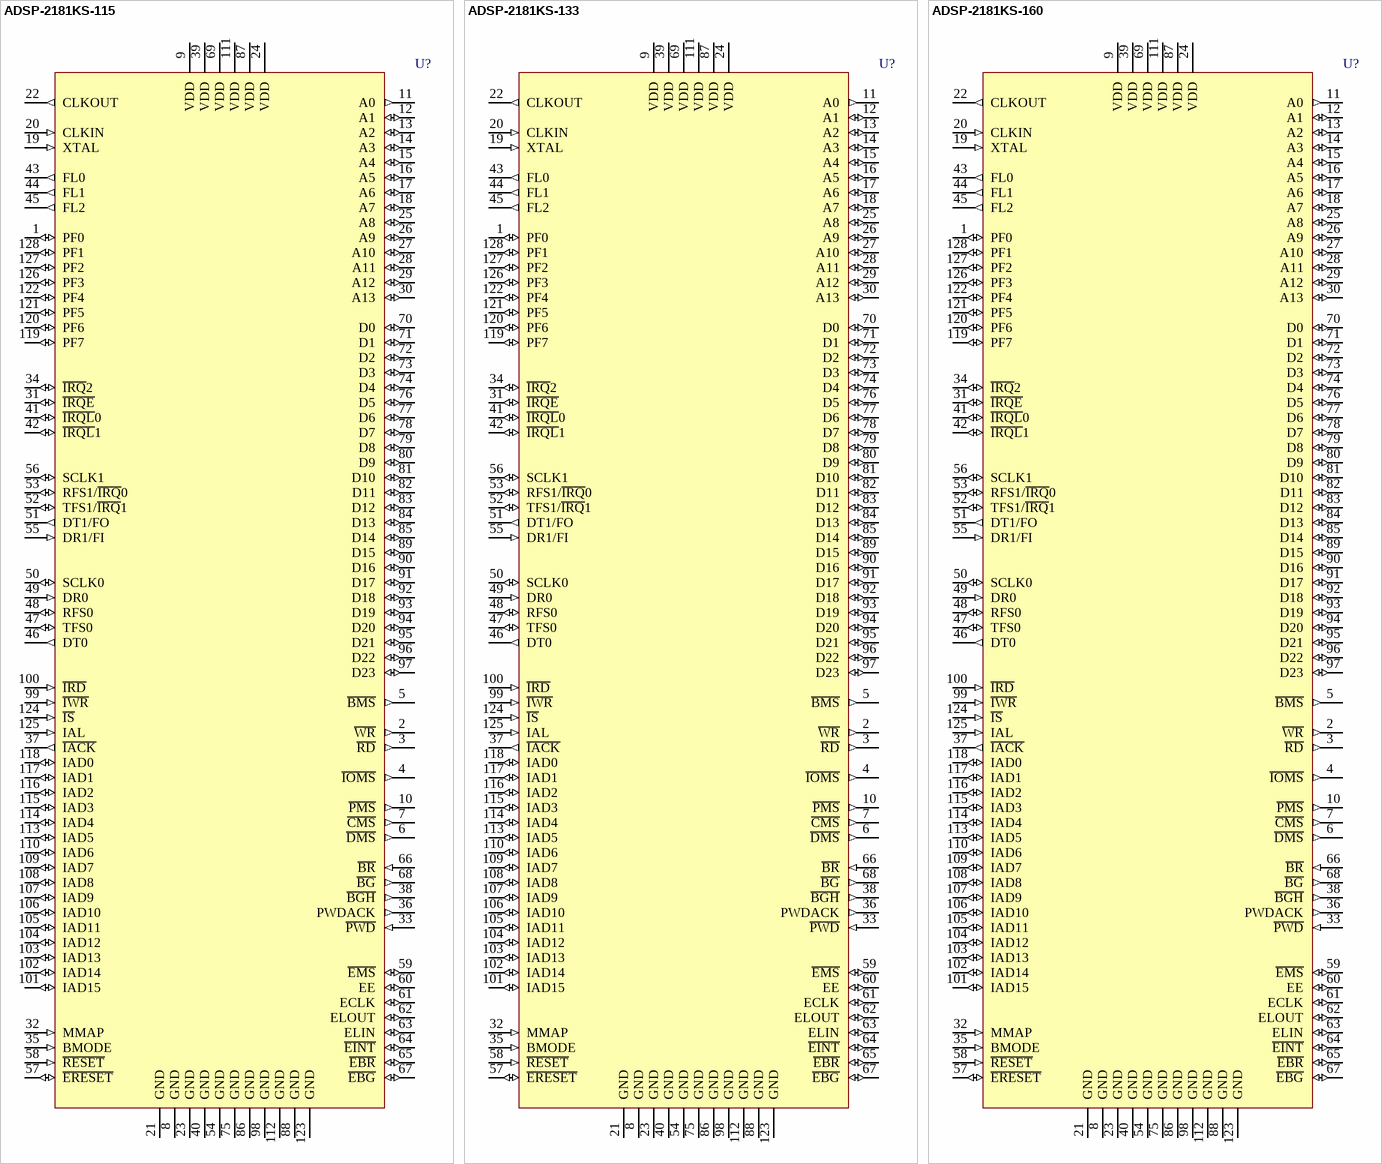
[diagram p26: symbols ADSP-2181KS-115 to ADSP-2181KS-160]